# Altium integrated library Microchip Microcontroller 8-Bit PIC17.IntLib: 400 symbols (part 17 of 18)
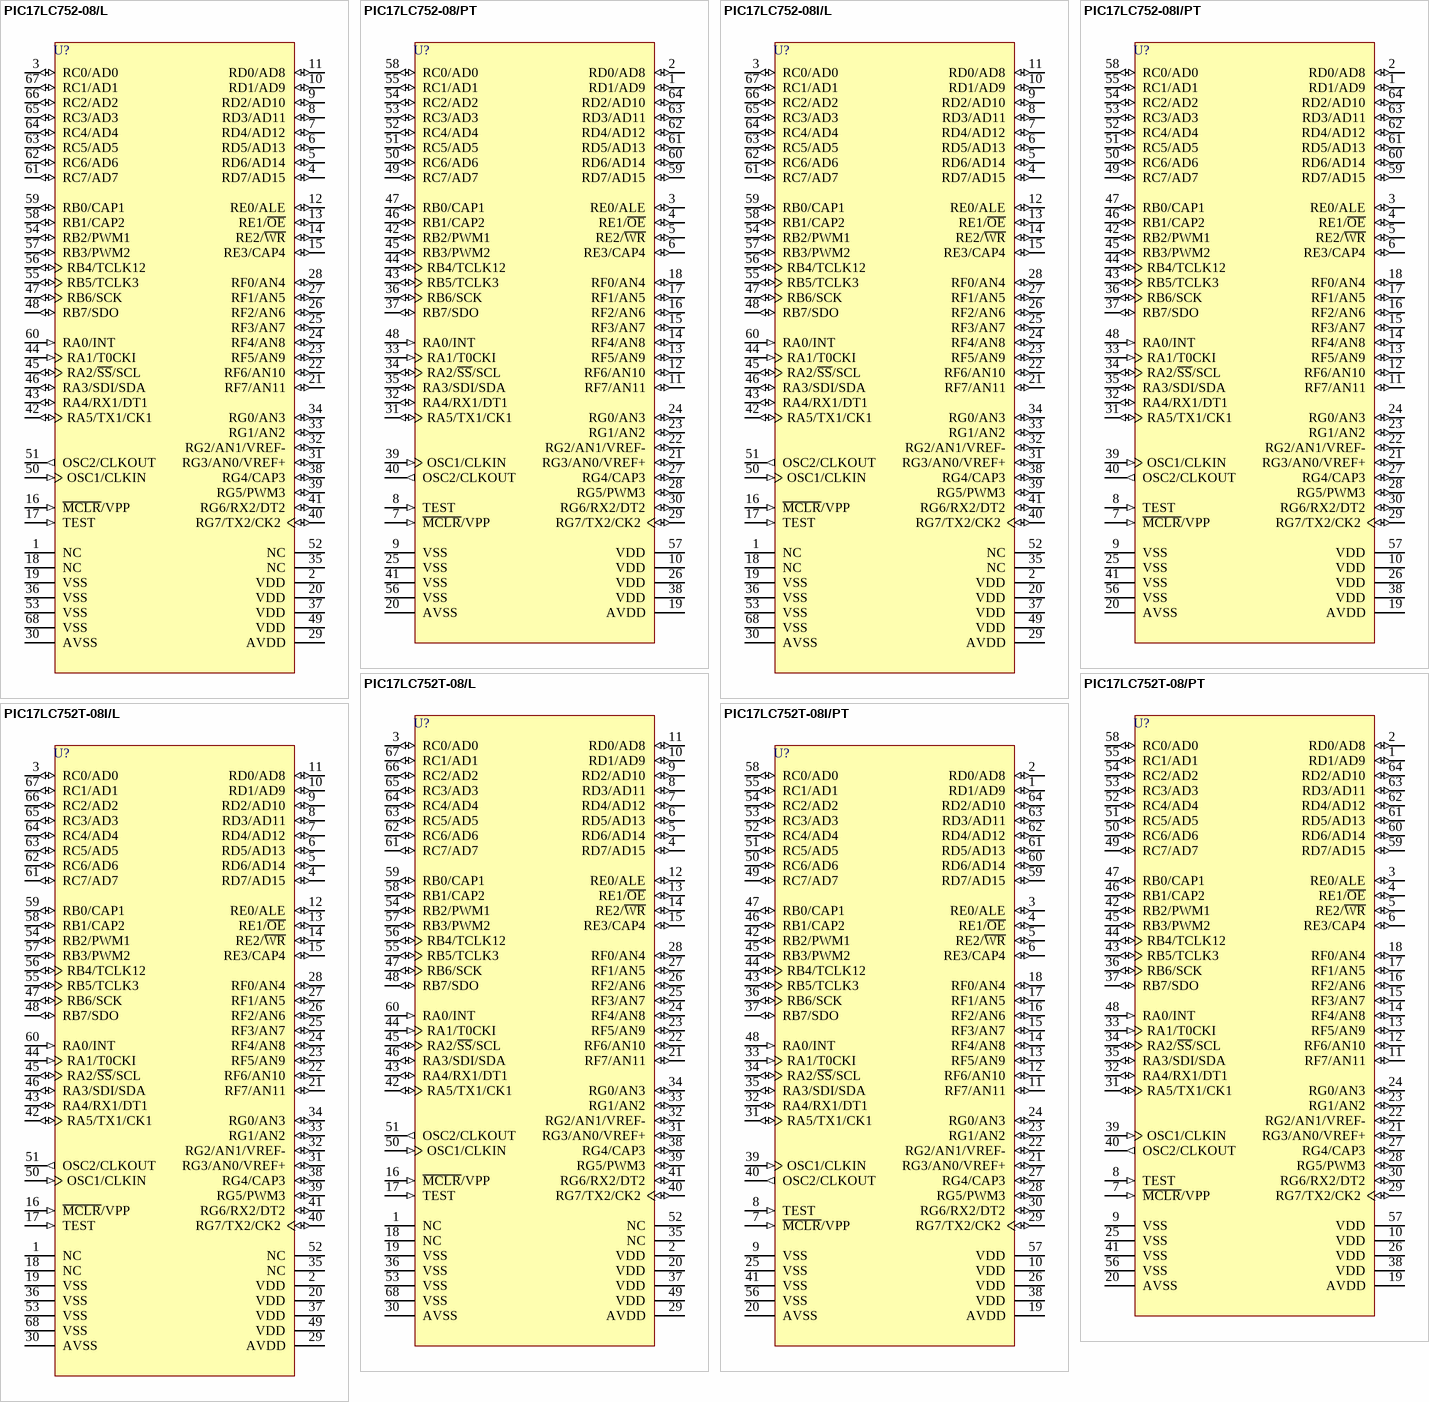
[diagram p57: symbols PIC17LC752-08/L to PIC17LC752T-08I/PT]

## PIC17LC752T-08I/PT
designator U?
High-Performance 8-Bit CMOS EPROM Microcontroller with 10-Bit A/D, 8K (x16) EPROM, 8 MHz, 64-Pin TQFP, Extended VDD Range, Industrial Temperature, Tape and Reel; Note: Not recommended for new designs. Consider PIC18F6520 instead.; Note: Pins RA2 and RA3 can sink up to 60 mA.; Published: 11-Oct-2004; LatestRevisionDate: 13-Apr-2006; LatestRevisionNote: IPC-7351 Footprint Added.; DatasheetVersion: DS30289B_2000; PackageVersion: 2003; PackageReference: TQFP-64; Publisher: Altium Limited; PackageDescription: 64-Pin Thin Plastic Quad Flat Pack 0.5 mm Pitch, 1.0/0.1 mm Lead Form; Code_JEDEC: MS-026; ComponentLink1Description: Manufacturer Link; ComponentLink1URL: http://www.microchip.com; ComponentLink2Description: Datasheet; ComponentLink2URL: http://ww1.microchip.com/downloads/en/DeviceDoc/30289b.pdf; ComponentLink3Description: Packaging Specification; ComponentLink3URL: http://ww1.microchip.com/downloads/en/PackagingSpec/00049AD.pdf
footprint TQFP-64_N (Thin QFP, 64-Leads, Body 10x10mm, Pitch 0.5mm, IPC Medium Density)
footprint TQFP-64_L (Thin QFP, 64-Leads, Body 10x10mm, Pitch 0.5mm, IPC High Density)
footprint TQFP-64_M (Thin QFP, 64-Leads, Body 10x10mm, Pitch 0.5mm, IPC Low Density)
3D model PIC17LC752-TQFP-64 (64-Pin Thin Plastic Quad Flat Pack 0.5 mm Pitch, 1.0/0.1 mm Lead Form)
pins: 1 RD1/AD9 (io), 2 RD0/AD8 (io), 3 RE0/ALE (io), 4 RE1/~{OE} (io), 5 RE2/~{WR} (io), 6 RE3/CAP4 (io), 7 ~{MCLR}/VPP (in), 8 TEST (in), 9 VSS (power), 10 VDD (power), 11 RF7/AN11 (io), 12 RF6/AN10 (io), 13 RF5/AN9 (io), 14 RF4/AN8 (io), 15 RF3/AN7 (io), 16 RF2/AN6 (io), 17 RF1/AN5 (io), 18 RF0/AN4 (io), 19 AVDD (power), 20 AVSS (power), 21 RG3/AN0/VREF+ (io), 22 RG2/AN1/VREF- (io), 23 RG1/AN2 (io), 24 RG0/AN3 (io), 25 VSS (power), 26 VDD (power), 27 RG4/CAP3 (io), 28 RG5/PWM3 (io), 29 RG7/TX2/CK2 (io), 30 RG6/RX2/DT2 (io), 31 RA5/TX1/CK1 (io), 32 RA4/RX1/DT1 (io), 33 RA1/T0CKI (in), 34 RA2/~{SS}/SCL (io), 35 RA3/SDI/SDA (io), 36 RB6/SCK (io), 37 RB7/SDO (io), 38 VDD (power), 39 OSC1/CLKIN (in), 40 OSC2/CLKOUT (out), 41 VSS (power), 42 RB2/PWM1 (io), 43 RB5/TCLK3 (io), 44 RB4/TCLK12 (io), 45 RB3/PWM2 (io), 46 RB1/CAP2 (io), 47 RB0/CAP1 (io), 48 RA0/INT (in), 49 RC7/AD7 (io), 50 RC6/AD6 (io), 51 RC5/AD5 (io), 52 RC4/AD4 (io), 53 RC3/AD3 (io), 54 RC2/AD2 (io), 55 RC1/AD1 (io), 56 VSS (power), 57 VDD (power), 58 RC0/AD0 (io), 59 RD7/AD15 (io), 60 RD6/AD14 (io), 61 RD5/AD13 (io), 62 RD4/AD12 (io), 63 RD3/AD11 (io), 64 RD2/AD10 (io)

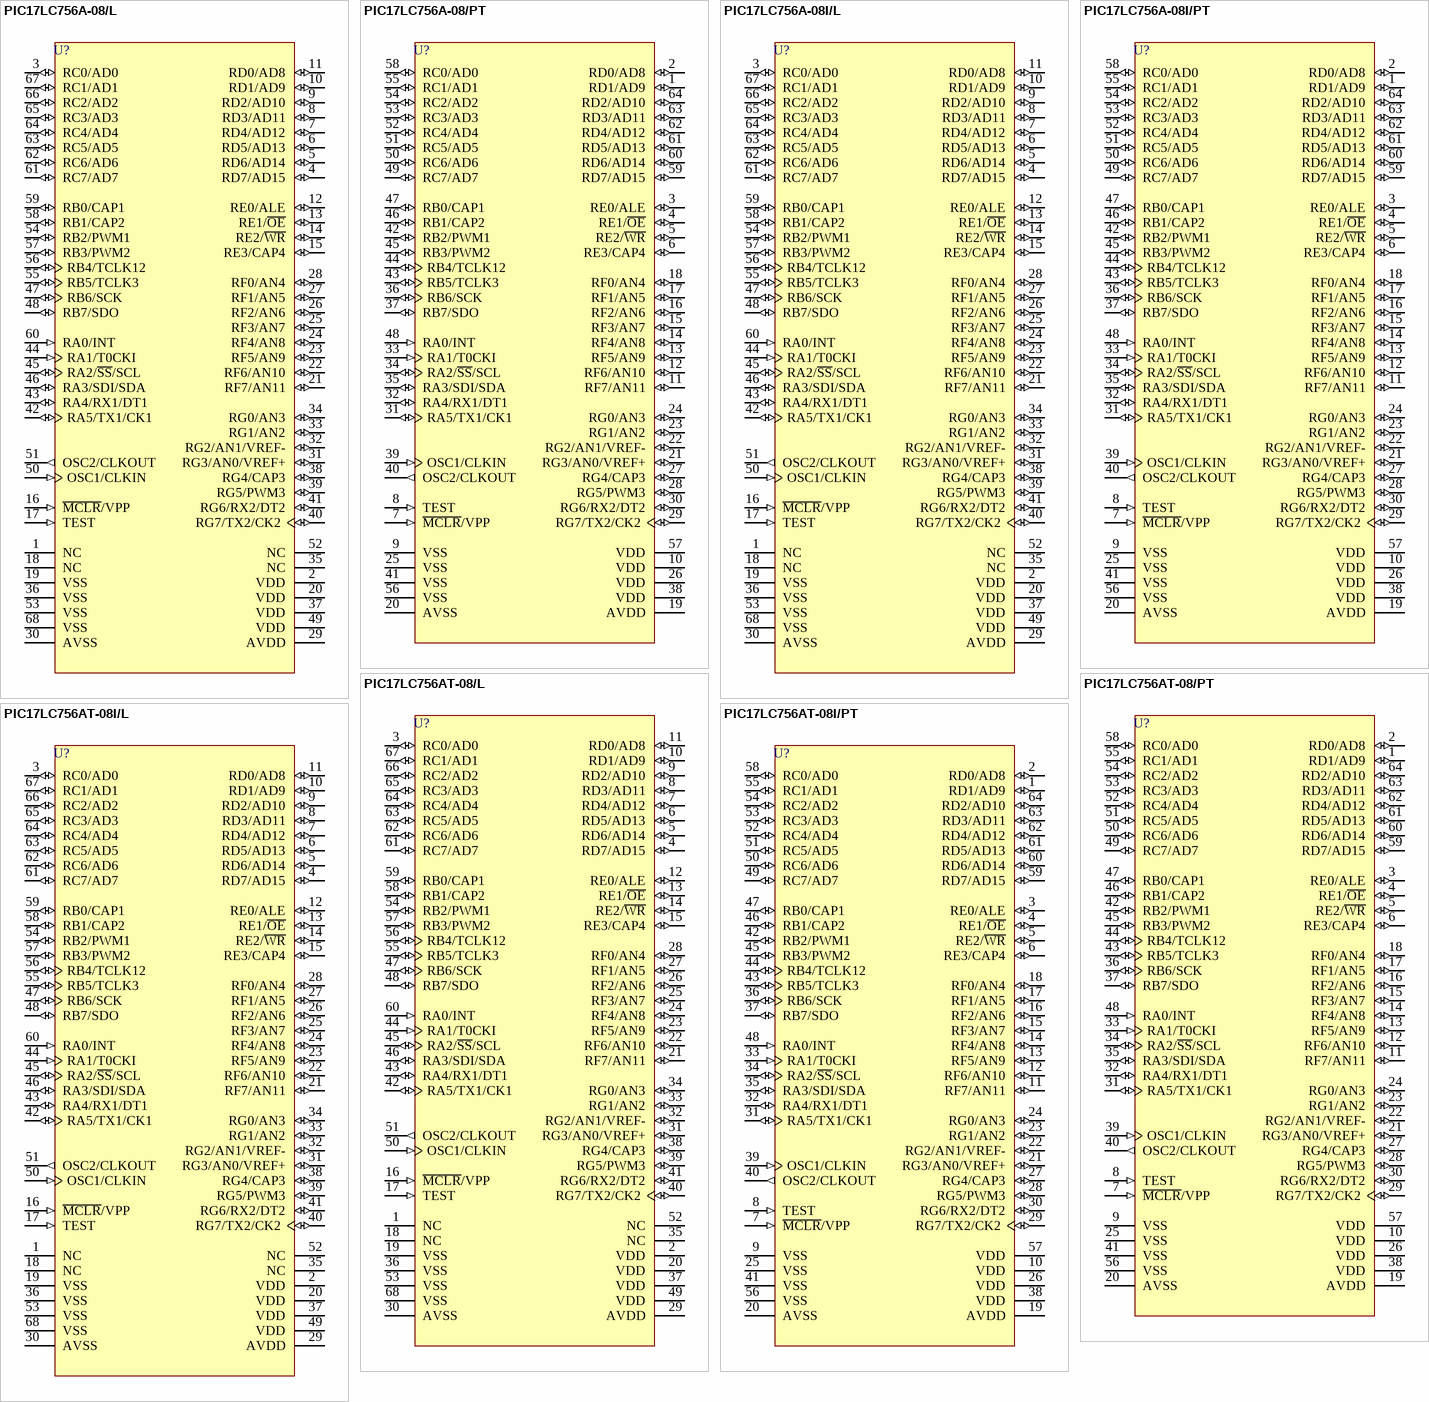
[diagram p38: symbols PIC17LC756A-08/L to PIC17LC756AT-08I/PT]

## PIC17LC756A-08/L
designator U?
High-Performance 8-Bit CMOS EPROM Microcontroller with 10-Bit A/D, 16K (x16) EPROM, 8 MHz, 68-Pin PLCC, Extended VDD Range, Commercial Temperature; Note: Not recommended for new designs. Consider PIC18F6520 instead.; Note: Pins RA2 and RA3 can sink up to 60 mA.; Published: 11-Oct-2004; LatestRevisionDate: 13-Apr-2006; LatestRevisionNote: IPC-7351 Footprint Added.; DatasheetVersion: DS30289B_2000; PackageVersion: 2003; PackageReference: PLCC-68; Publisher: Altium Limited; PackageDescription: 68-Pin Leaded Chip Carrier 1.27 mm Pitch; Code_JEDEC: MO-047; Code_IPC: PLCC-68; ComponentLink1Description: Manufacturer Link; ComponentLink1URL: http://www.microchip.com; ComponentLink2Description: Datasheet; ComponentLink2URL: http://ww1.microchip.com/downloads/en/DeviceDoc/30289b.pdf; ComponentLink3Description: Packaging Specification; ComponentLink3URL: http://ww1.microchip.com/downloads/en/PackagingSpec/00049AD.pdf
footprint PLCC-68_N (Leaded Chip Carrier, 68-Leads, Body 24x24mm, Pitch 1.27mm, IPC Medium Density)
footprint PLCC-68_L (Leaded Chip Carrier, 68-Leads, Body 24x24mm, Pitch 1.27mm, IPC High Density)
footprint PLCC-68_M (Leaded Chip Carrier, 68-Leads, Body 24x24mm, Pitch 1.27mm, IPC Low Density)
3D model PIC17LC756A-PLCC-68 (68-Pin Leaded Chip Carrier 1.27 mm Pitch)
pins: 1 NC, 2 VDD (power), 3 RC0/AD0 (io), 4 RD7/AD15 (io), 5 RD6/AD14 (io), 6 RD5/AD13 (io), 7 RD4/AD12 (io), 8 RD3/AD11 (io), 9 RD2/AD10 (io), 10 RD1/AD9 (io), 11 RD0/AD8 (io), 12 RE0/ALE (io), 13 RE1/~{OE} (io), 14 RE2/~{WR} (io), 15 RE3/CAP4 (io), 16 ~{MCLR}/VPP (in), 17 TEST (in), 18 NC, 19 VSS (power), 20 VDD (power), 21 RF7/AN11 (io), 22 RF6/AN10 (io), 23 RF5/AN9 (io), 24 RF4/AN8 (io), 25 RF3/AN7 (io), 26 RF2/AN6 (io), 27 RF1/AN5 (io), 28 RF0/AN4 (io), 29 AVDD (power), 30 AVSS (power), 31 RG3/AN0/VREF+ (io), 32 RG2/AN1/VREF- (io), 33 RG1/AN2 (io), 34 RG0/AN3 (io), 35 NC, 36 VSS (power), 37 VDD (power), 38 RG4/CAP3 (io), 39 RG5/PWM3 (io), 40 RG7/TX2/CK2 (io), 41 RG6/RX2/DT2 (io), 42 RA5/TX1/CK1 (io), 43 RA4/RX1/DT1 (io), 44 RA1/T0CKI (in), 45 RA2/~{SS}/SCL (io), 46 RA3/SDI/SDA (io), 47 RB6/SCK (io), 48 RB7/SDO (io), 49 VDD (power), 50 OSC1/CLKIN (in), 51 OSC2/CLKOUT (out), 52 NC, 53 VSS (power), 54 RB2/PWM1 (io), 55 RB5/TCLK3 (io), 56 RB4/TCLK12 (io), 57 RB3/PWM2 (io), 58 RB1/CAP2 (io), 59 RB0/CAP1 (io), 60 RA0/INT (in), 61 RC7/AD7 (io), 62 RC6/AD6 (io), 63 RC5/AD5 (io), 64 RC4/AD4 (io), 65 RC3/AD3 (io), 66 RC2/AD2 (io), 67 RC1/AD1 (io), 68 VSS (power)

## PIC17LC756A-08/PT
designator U?
High-Performance 8-Bit CMOS EPROM Microcontroller with 10-Bit A/D, 16K (x16) EPROM, 8 MHz, 64-Pin TQFP, Extended VDD Range, Commercial Temperature; Note: Not recommended for new designs. Consider PIC18F6520 instead.; Note: Pins RA2 and RA3 can sink up to 60 mA.; Published: 11-Oct-2004; LatestRevisionDate: 13-Apr-2006; LatestRevisionNote: IPC-7351 Footprint Added.; DatasheetVersion: DS30289B_2000; PackageVersion: 2003; PackageReference: TQFP-64; Publisher: Altium Limited; PackageDescription: 64-Pin Thin Plastic Quad Flat Pack 0.5 mm Pitch, 1.0/0.1 mm Lead Form; Code_JEDEC: MS-026; ComponentLink1Description: Manufacturer Link; ComponentLink1URL: http://www.microchip.com; ComponentLink2Description: Datasheet; ComponentLink2URL: http://ww1.microchip.com/downloads/en/DeviceDoc/30289b.pdf; ComponentLink3Description: Packaging Specification; ComponentLink3URL: http://ww1.microchip.com/downloads/en/PackagingSpec/00049AD.pdf
footprint TQFP-64_N (Thin QFP, 64-Leads, Body 10x10mm, Pitch 0.5mm, IPC Medium Density)
footprint TQFP-64_L (Thin QFP, 64-Leads, Body 10x10mm, Pitch 0.5mm, IPC High Density)
footprint TQFP-64_M (Thin QFP, 64-Leads, Body 10x10mm, Pitch 0.5mm, IPC Low Density)
3D model PIC17LC756A-TQFP-64 (64-Pin Thin Plastic Quad Flat Pack 0.5 mm Pitch, 1.0/0.1 mm Lead Form)
pins: 1 RD1/AD9 (io), 2 RD0/AD8 (io), 3 RE0/ALE (io), 4 RE1/~{OE} (io), 5 RE2/~{WR} (io), 6 RE3/CAP4 (io), 7 ~{MCLR}/VPP (in), 8 TEST (in), 9 VSS (power), 10 VDD (power), 11 RF7/AN11 (io), 12 RF6/AN10 (io), 13 RF5/AN9 (io), 14 RF4/AN8 (io), 15 RF3/AN7 (io), 16 RF2/AN6 (io), 17 RF1/AN5 (io), 18 RF0/AN4 (io), 19 AVDD (power), 20 AVSS (power), 21 RG3/AN0/VREF+ (io), 22 RG2/AN1/VREF- (io), 23 RG1/AN2 (io), 24 RG0/AN3 (io), 25 VSS (power), 26 VDD (power), 27 RG4/CAP3 (io), 28 RG5/PWM3 (io), 29 RG7/TX2/CK2 (io), 30 RG6/RX2/DT2 (io), 31 RA5/TX1/CK1 (io), 32 RA4/RX1/DT1 (io), 33 RA1/T0CKI (in), 34 RA2/~{SS}/SCL (io), 35 RA3/SDI/SDA (io), 36 RB6/SCK (io), 37 RB7/SDO (io), 38 VDD (power), 39 OSC1/CLKIN (in), 40 OSC2/CLKOUT (out), 41 VSS (power), 42 RB2/PWM1 (io), 43 RB5/TCLK3 (io), 44 RB4/TCLK12 (io), 45 RB3/PWM2 (io), 46 RB1/CAP2 (io), 47 RB0/CAP1 (io), 48 RA0/INT (in), 49 RC7/AD7 (io), 50 RC6/AD6 (io), 51 RC5/AD5 (io), 52 RC4/AD4 (io), 53 RC3/AD3 (io), 54 RC2/AD2 (io), 55 RC1/AD1 (io), 56 VSS (power), 57 VDD (power), 58 RC0/AD0 (io), 59 RD7/AD15 (io), 60 RD6/AD14 (io), 61 RD5/AD13 (io), 62 RD4/AD12 (io), 63 RD3/AD11 (io), 64 RD2/AD10 (io)

## PIC17LC756A-08I/L
designator U?
High-Performance 8-Bit CMOS EPROM Microcontroller with 10-Bit A/D, 16K (x16) EPROM, 8 MHz, 68-Pin PLCC, Extended VDD Range, Industrial Temperature; Note: Not recommended for new designs. Consider PIC18F6520 instead.; Note: Pins RA2 and RA3 can sink up to 60 mA.; Published: 11-Oct-2004; LatestRevisionDate: 13-Apr-2006; LatestRevisionNote: IPC-7351 Footprint Added.; DatasheetVersion: DS30289B_2000; PackageVersion: 2003; PackageReference: PLCC-68; Publisher: Altium Limited; PackageDescription: 68-Pin Leaded Chip Carrier 1.27 mm Pitch; Code_JEDEC: MO-047; Code_IPC: PLCC-68; ComponentLink1Description: Manufacturer Link; ComponentLink1URL: http://www.microchip.com; ComponentLink2Description: Datasheet; ComponentLink2URL: http://ww1.microchip.com/downloads/en/DeviceDoc/30289b.pdf; ComponentLink3Description: Packaging Specification; ComponentLink3URL: http://ww1.microchip.com/downloads/en/PackagingSpec/00049AD.pdf
footprint PLCC-68_N (Leaded Chip Carrier, 68-Leads, Body 24x24mm, Pitch 1.27mm, IPC Medium Density)
footprint PLCC-68_L (Leaded Chip Carrier, 68-Leads, Body 24x24mm, Pitch 1.27mm, IPC High Density)
footprint PLCC-68_M (Leaded Chip Carrier, 68-Leads, Body 24x24mm, Pitch 1.27mm, IPC Low Density)
3D model PIC17LC756A-PLCC-68 (68-Pin Leaded Chip Carrier 1.27 mm Pitch)
pins: 1 NC, 2 VDD (power), 3 RC0/AD0 (io), 4 RD7/AD15 (io), 5 RD6/AD14 (io), 6 RD5/AD13 (io), 7 RD4/AD12 (io), 8 RD3/AD11 (io), 9 RD2/AD10 (io), 10 RD1/AD9 (io), 11 RD0/AD8 (io), 12 RE0/ALE (io), 13 RE1/~{OE} (io), 14 RE2/~{WR} (io), 15 RE3/CAP4 (io), 16 ~{MCLR}/VPP (in), 17 TEST (in), 18 NC, 19 VSS (power), 20 VDD (power), 21 RF7/AN11 (io), 22 RF6/AN10 (io), 23 RF5/AN9 (io), 24 RF4/AN8 (io), 25 RF3/AN7 (io), 26 RF2/AN6 (io), 27 RF1/AN5 (io), 28 RF0/AN4 (io), 29 AVDD (power), 30 AVSS (power), 31 RG3/AN0/VREF+ (io), 32 RG2/AN1/VREF- (io), 33 RG1/AN2 (io), 34 RG0/AN3 (io), 35 NC, 36 VSS (power), 37 VDD (power), 38 RG4/CAP3 (io), 39 RG5/PWM3 (io), 40 RG7/TX2/CK2 (io), 41 RG6/RX2/DT2 (io), 42 RA5/TX1/CK1 (io), 43 RA4/RX1/DT1 (io), 44 RA1/T0CKI (in), 45 RA2/~{SS}/SCL (io), 46 RA3/SDI/SDA (io), 47 RB6/SCK (io), 48 RB7/SDO (io), 49 VDD (power), 50 OSC1/CLKIN (in), 51 OSC2/CLKOUT (out), 52 NC, 53 VSS (power), 54 RB2/PWM1 (io), 55 RB5/TCLK3 (io), 56 RB4/TCLK12 (io), 57 RB3/PWM2 (io), 58 RB1/CAP2 (io), 59 RB0/CAP1 (io), 60 RA0/INT (in), 61 RC7/AD7 (io), 62 RC6/AD6 (io), 63 RC5/AD5 (io), 64 RC4/AD4 (io), 65 RC3/AD3 (io), 66 RC2/AD2 (io), 67 RC1/AD1 (io), 68 VSS (power)

## PIC17LC756A-08I/PT
designator U?
High-Performance 8-Bit CMOS EPROM Microcontroller with 10-Bit A/D, 16K (x16) EPROM, 8 MHz, 64-Pin TQFP, Extended VDD Range, Industrial Temperature; Note: Not recommended for new designs. Consider PIC18F6520 instead.; Note: Pins RA2 and RA3 can sink up to 60 mA.; Published: 11-Oct-2004; LatestRevisionDate: 13-Apr-2006; LatestRevisionNote: IPC-7351 Footprint Added.; DatasheetVersion: DS30289B_2000; PackageVersion: 2003; PackageReference: TQFP-64; Publisher: Altium Limited; PackageDescription: 64-Pin Thin Plastic Quad Flat Pack 0.5 mm Pitch, 1.0/0.1 mm Lead Form; Code_JEDEC: MS-026; ComponentLink1Description: Manufacturer Link; ComponentLink1URL: http://www.microchip.com; ComponentLink2Description: Datasheet; ComponentLink2URL: http://ww1.microchip.com/downloads/en/DeviceDoc/30289b.pdf; ComponentLink3Description: Packaging Specification; ComponentLink3URL: http://ww1.microchip.com/downloads/en/PackagingSpec/00049AD.pdf
footprint TQFP-64_N (Thin QFP, 64-Leads, Body 10x10mm, Pitch 0.5mm, IPC Medium Density)
footprint TQFP-64_L (Thin QFP, 64-Leads, Body 10x10mm, Pitch 0.5mm, IPC High Density)
footprint TQFP-64_M (Thin QFP, 64-Leads, Body 10x10mm, Pitch 0.5mm, IPC Low Density)
3D model PIC17LC756A-TQFP-64 (64-Pin Thin Plastic Quad Flat Pack 0.5 mm Pitch, 1.0/0.1 mm Lead Form)
pins: 1 RD1/AD9 (io), 2 RD0/AD8 (io), 3 RE0/ALE (io), 4 RE1/~{OE} (io), 5 RE2/~{WR} (io), 6 RE3/CAP4 (io), 7 ~{MCLR}/VPP (in), 8 TEST (in), 9 VSS (power), 10 VDD (power), 11 RF7/AN11 (io), 12 RF6/AN10 (io), 13 RF5/AN9 (io), 14 RF4/AN8 (io), 15 RF3/AN7 (io), 16 RF2/AN6 (io), 17 RF1/AN5 (io), 18 RF0/AN4 (io), 19 AVDD (power), 20 AVSS (power), 21 RG3/AN0/VREF+ (io), 22 RG2/AN1/VREF- (io), 23 RG1/AN2 (io), 24 RG0/AN3 (io), 25 VSS (power), 26 VDD (power), 27 RG4/CAP3 (io), 28 RG5/PWM3 (io), 29 RG7/TX2/CK2 (io), 30 RG6/RX2/DT2 (io), 31 RA5/TX1/CK1 (io), 32 RA4/RX1/DT1 (io), 33 RA1/T0CKI (in), 34 RA2/~{SS}/SCL (io), 35 RA3/SDI/SDA (io), 36 RB6/SCK (io), 37 RB7/SDO (io), 38 VDD (power), 39 OSC1/CLKIN (in), 40 OSC2/CLKOUT (out), 41 VSS (power), 42 RB2/PWM1 (io), 43 RB5/TCLK3 (io), 44 RB4/TCLK12 (io), 45 RB3/PWM2 (io), 46 RB1/CAP2 (io), 47 RB0/CAP1 (io), 48 RA0/INT (in), 49 RC7/AD7 (io), 50 RC6/AD6 (io), 51 RC5/AD5 (io), 52 RC4/AD4 (io), 53 RC3/AD3 (io), 54 RC2/AD2 (io), 55 RC1/AD1 (io), 56 VSS (power), 57 VDD (power), 58 RC0/AD0 (io), 59 RD7/AD15 (io), 60 RD6/AD14 (io), 61 RD5/AD13 (io), 62 RD4/AD12 (io), 63 RD3/AD11 (io), 64 RD2/AD10 (io)

## PIC17LC756AT-08/L
designator U?
High-Performance 8-Bit CMOS EPROM Microcontroller with 10-Bit A/D, 16K (x16) EPROM, 8 MHz, 68-Pin PLCC, Extended VDD Range, Commercial Temperature, Tape and Reel; Note: Not recommended for new designs. Consider PIC18F6520 instead.; Note: Pins RA2 and RA3 can sink up to 60 mA.; Published: 11-Oct-2004; LatestRevisionDate: 13-Apr-2006; LatestRevisionNote: IPC-7351 Footprint Added.; DatasheetVersion: DS30289B_2000; PackageVersion: 2003; PackageReference: PLCC-68; Publisher: Altium Limited; PackageDescription: 68-Pin Leaded Chip Carrier 1.27 mm Pitch; Code_JEDEC: MO-047; Code_IPC: PLCC-68; ComponentLink1Description: Manufacturer Link; ComponentLink1URL: http://www.microchip.com; ComponentLink2Description: Datasheet; ComponentLink2URL: http://ww1.microchip.com/downloads/en/DeviceDoc/30289b.pdf; ComponentLink3Description: Packaging Specification; ComponentLink3URL: http://ww1.microchip.com/downloads/en/PackagingSpec/00049AD.pdf
footprint PLCC-68_N (Leaded Chip Carrier, 68-Leads, Body 24x24mm, Pitch 1.27mm, IPC Medium Density)
footprint PLCC-68_L (Leaded Chip Carrier, 68-Leads, Body 24x24mm, Pitch 1.27mm, IPC High Density)
footprint PLCC-68_M (Leaded Chip Carrier, 68-Leads, Body 24x24mm, Pitch 1.27mm, IPC Low Density)
3D model PIC17LC756A-PLCC-68 (68-Pin Leaded Chip Carrier 1.27 mm Pitch)
pins: 1 NC, 2 VDD (power), 3 RC0/AD0 (io), 4 RD7/AD15 (io), 5 RD6/AD14 (io), 6 RD5/AD13 (io), 7 RD4/AD12 (io), 8 RD3/AD11 (io), 9 RD2/AD10 (io), 10 RD1/AD9 (io), 11 RD0/AD8 (io), 12 RE0/ALE (io), 13 RE1/~{OE} (io), 14 RE2/~{WR} (io), 15 RE3/CAP4 (io), 16 ~{MCLR}/VPP (in), 17 TEST (in), 18 NC, 19 VSS (power), 20 VDD (power), 21 RF7/AN11 (io), 22 RF6/AN10 (io), 23 RF5/AN9 (io), 24 RF4/AN8 (io), 25 RF3/AN7 (io), 26 RF2/AN6 (io), 27 RF1/AN5 (io), 28 RF0/AN4 (io), 29 AVDD (power), 30 AVSS (power), 31 RG3/AN0/VREF+ (io), 32 RG2/AN1/VREF- (io), 33 RG1/AN2 (io), 34 RG0/AN3 (io), 35 NC, 36 VSS (power), 37 VDD (power), 38 RG4/CAP3 (io), 39 RG5/PWM3 (io), 40 RG7/TX2/CK2 (io), 41 RG6/RX2/DT2 (io), 42 RA5/TX1/CK1 (io), 43 RA4/RX1/DT1 (io), 44 RA1/T0CKI (in), 45 RA2/~{SS}/SCL (io), 46 RA3/SDI/SDA (io), 47 RB6/SCK (io), 48 RB7/SDO (io), 49 VDD (power), 50 OSC1/CLKIN (in), 51 OSC2/CLKOUT (out), 52 NC, 53 VSS (power), 54 RB2/PWM1 (io), 55 RB5/TCLK3 (io), 56 RB4/TCLK12 (io), 57 RB3/PWM2 (io), 58 RB1/CAP2 (io), 59 RB0/CAP1 (io), 60 RA0/INT (in), 61 RC7/AD7 (io), 62 RC6/AD6 (io), 63 RC5/AD5 (io), 64 RC4/AD4 (io), 65 RC3/AD3 (io), 66 RC2/AD2 (io), 67 RC1/AD1 (io), 68 VSS (power)

## PIC17LC756AT-08/PT
designator U?
High-Performance 8-Bit CMOS EPROM Microcontroller with 10-Bit A/D, 16K (x16) EPROM, 8 MHz, 64-Pin TQFP, Extended VDD Range, Commercial Temperature, Tape and Reel; Note: Not recommended for new designs. Consider PIC18F6520 instead.; Note: Pins RA2 and RA3 can sink up to 60 mA.; Published: 11-Oct-2004; LatestRevisionDate: 13-Apr-2006; LatestRevisionNote: IPC-7351 Footprint Added.; DatasheetVersion: DS30289B_2000; PackageVersion: 2003; PackageReference: TQFP-64; Publisher: Altium Limited; PackageDescription: 64-Pin Thin Plastic Quad Flat Pack 0.5 mm Pitch, 1.0/0.1 mm Lead Form; Code_JEDEC: MS-026; ComponentLink1Description: Manufacturer Link; ComponentLink1URL: http://www.microchip.com; ComponentLink2Description: Datasheet; ComponentLink2URL: http://ww1.microchip.com/downloads/en/DeviceDoc/30289b.pdf; ComponentLink3Description: Packaging Specification; ComponentLink3URL: http://ww1.microchip.com/downloads/en/PackagingSpec/00049AD.pdf
footprint TQFP-64_N (Thin QFP, 64-Leads, Body 10x10mm, Pitch 0.5mm, IPC Medium Density)
footprint TQFP-64_L (Thin QFP, 64-Leads, Body 10x10mm, Pitch 0.5mm, IPC High Density)
footprint TQFP-64_M (Thin QFP, 64-Leads, Body 10x10mm, Pitch 0.5mm, IPC Low Density)
3D model PIC17LC756A-TQFP-64 (64-Pin Thin Plastic Quad Flat Pack 0.5 mm Pitch, 1.0/0.1 mm Lead Form)
pins: 1 RD1/AD9 (io), 2 RD0/AD8 (io), 3 RE0/ALE (io), 4 RE1/~{OE} (io), 5 RE2/~{WR} (io), 6 RE3/CAP4 (io), 7 ~{MCLR}/VPP (in), 8 TEST (in), 9 VSS (power), 10 VDD (power), 11 RF7/AN11 (io), 12 RF6/AN10 (io), 13 RF5/AN9 (io), 14 RF4/AN8 (io), 15 RF3/AN7 (io), 16 RF2/AN6 (io), 17 RF1/AN5 (io), 18 RF0/AN4 (io), 19 AVDD (power), 20 AVSS (power), 21 RG3/AN0/VREF+ (io), 22 RG2/AN1/VREF- (io), 23 RG1/AN2 (io), 24 RG0/AN3 (io), 25 VSS (power), 26 VDD (power), 27 RG4/CAP3 (io), 28 RG5/PWM3 (io), 29 RG7/TX2/CK2 (io), 30 RG6/RX2/DT2 (io), 31 RA5/TX1/CK1 (io), 32 RA4/RX1/DT1 (io), 33 RA1/T0CKI (in), 34 RA2/~{SS}/SCL (io), 35 RA3/SDI/SDA (io), 36 RB6/SCK (io), 37 RB7/SDO (io), 38 VDD (power), 39 OSC1/CLKIN (in), 40 OSC2/CLKOUT (out), 41 VSS (power), 42 RB2/PWM1 (io), 43 RB5/TCLK3 (io), 44 RB4/TCLK12 (io), 45 RB3/PWM2 (io), 46 RB1/CAP2 (io), 47 RB0/CAP1 (io), 48 RA0/INT (in), 49 RC7/AD7 (io), 50 RC6/AD6 (io), 51 RC5/AD5 (io), 52 RC4/AD4 (io), 53 RC3/AD3 (io), 54 RC2/AD2 (io), 55 RC1/AD1 (io), 56 VSS (power), 57 VDD (power), 58 RC0/AD0 (io), 59 RD7/AD15 (io), 60 RD6/AD14 (io), 61 RD5/AD13 (io), 62 RD4/AD12 (io), 63 RD3/AD11 (io), 64 RD2/AD10 (io)

## PIC17LC756AT-08I/L
designator U?
High-Performance 8-Bit CMOS EPROM Microcontroller with 10-Bit A/D, 16K (x16) EPROM, 8 MHz, 68-Pin PLCC, Extended VDD Range, Industrial Temperature, Tape and Reel; Note: Not recommended for new designs. Consider PIC18F6520 instead.; Note: Pins RA2 and RA3 can sink up to 60 mA.; Published: 11-Oct-2004; LatestRevisionDate: 13-Apr-2006; LatestRevisionNote: IPC-7351 Footprint Added.; DatasheetVersion: DS30289B_2000; PackageVersion: 2003; PackageReference: PLCC-68; Publisher: Altium Limited; PackageDescription: 68-Pin Leaded Chip Carrier 1.27 mm Pitch; Code_JEDEC: MO-047; Code_IPC: PLCC-68; ComponentLink1Description: Manufacturer Link; ComponentLink1URL: http://www.microchip.com; ComponentLink2Description: Datasheet; ComponentLink2URL: http://ww1.microchip.com/downloads/en/DeviceDoc/30289b.pdf; ComponentLink3Description: Packaging Specification; ComponentLink3URL: http://ww1.microchip.com/downloads/en/PackagingSpec/00049AD.pdf
footprint PLCC-68_N (Leaded Chip Carrier, 68-Leads, Body 24x24mm, Pitch 1.27mm, IPC Medium Density)
footprint PLCC-68_L (Leaded Chip Carrier, 68-Leads, Body 24x24mm, Pitch 1.27mm, IPC High Density)
footprint PLCC-68_M (Leaded Chip Carrier, 68-Leads, Body 24x24mm, Pitch 1.27mm, IPC Low Density)
3D model PIC17LC756A-PLCC-68 (68-Pin Leaded Chip Carrier 1.27 mm Pitch)
pins: 1 NC, 2 VDD (power), 3 RC0/AD0 (io), 4 RD7/AD15 (io), 5 RD6/AD14 (io), 6 RD5/AD13 (io), 7 RD4/AD12 (io), 8 RD3/AD11 (io), 9 RD2/AD10 (io), 10 RD1/AD9 (io), 11 RD0/AD8 (io), 12 RE0/ALE (io), 13 RE1/~{OE} (io), 14 RE2/~{WR} (io), 15 RE3/CAP4 (io), 16 ~{MCLR}/VPP (in), 17 TEST (in), 18 NC, 19 VSS (power), 20 VDD (power), 21 RF7/AN11 (io), 22 RF6/AN10 (io), 23 RF5/AN9 (io), 24 RF4/AN8 (io), 25 RF3/AN7 (io), 26 RF2/AN6 (io), 27 RF1/AN5 (io), 28 RF0/AN4 (io), 29 AVDD (power), 30 AVSS (power), 31 RG3/AN0/VREF+ (io), 32 RG2/AN1/VREF- (io), 33 RG1/AN2 (io), 34 RG0/AN3 (io), 35 NC, 36 VSS (power), 37 VDD (power), 38 RG4/CAP3 (io), 39 RG5/PWM3 (io), 40 RG7/TX2/CK2 (io), 41 RG6/RX2/DT2 (io), 42 RA5/TX1/CK1 (io), 43 RA4/RX1/DT1 (io), 44 RA1/T0CKI (in), 45 RA2/~{SS}/SCL (io), 46 RA3/SDI/SDA (io), 47 RB6/SCK (io), 48 RB7/SDO (io), 49 VDD (power), 50 OSC1/CLKIN (in), 51 OSC2/CLKOUT (out), 52 NC, 53 VSS (power), 54 RB2/PWM1 (io), 55 RB5/TCLK3 (io), 56 RB4/TCLK12 (io), 57 RB3/PWM2 (io), 58 RB1/CAP2 (io), 59 RB0/CAP1 (io), 60 RA0/INT (in), 61 RC7/AD7 (io), 62 RC6/AD6 (io), 63 RC5/AD5 (io), 64 RC4/AD4 (io), 65 RC3/AD3 (io), 66 RC2/AD2 (io), 67 RC1/AD1 (io), 68 VSS (power)

## PIC17LC756AT-08I/PT
designator U?
High-Performance 8-Bit CMOS EPROM Microcontroller with 10-Bit A/D, 16K (x16) EPROM, 8 MHz, 64-Pin TQFP, Extended VDD Range, Industrial Temperature, Tape and Reel; Note: Not recommended for new designs. Consider PIC18F6520 instead.; Note: Pins RA2 and RA3 can sink up to 60 mA.; Published: 11-Oct-2004; LatestRevisionDate: 13-Apr-2006; LatestRevisionNote: IPC-7351 Footprint Added.; DatasheetVersion: DS30289B_2000; PackageVersion: 2003; PackageReference: TQFP-64; Publisher: Altium Limited; PackageDescription: 64-Pin Thin Plastic Quad Flat Pack 0.5 mm Pitch, 1.0/0.1 mm Lead Form; Code_JEDEC: MS-026; ComponentLink1Description: Manufacturer Link; ComponentLink1URL: http://www.microchip.com; ComponentLink2Description: Datasheet; ComponentLink2URL: http://ww1.microchip.com/downloads/en/DeviceDoc/30289b.pdf; ComponentLink3Description: Packaging Specification; ComponentLink3URL: http://ww1.microchip.com/downloads/en/PackagingSpec/00049AD.pdf
footprint TQFP-64_N (Thin QFP, 64-Leads, Body 10x10mm, Pitch 0.5mm, IPC Medium Density)
footprint TQFP-64_L (Thin QFP, 64-Leads, Body 10x10mm, Pitch 0.5mm, IPC High Density)
footprint TQFP-64_M (Thin QFP, 64-Leads, Body 10x10mm, Pitch 0.5mm, IPC Low Density)
3D model PIC17LC756A-TQFP-64 (64-Pin Thin Plastic Quad Flat Pack 0.5 mm Pitch, 1.0/0.1 mm Lead Form)
pins: 1 RD1/AD9 (io), 2 RD0/AD8 (io), 3 RE0/ALE (io), 4 RE1/~{OE} (io), 5 RE2/~{WR} (io), 6 RE3/CAP4 (io), 7 ~{MCLR}/VPP (in), 8 TEST (in), 9 VSS (power), 10 VDD (power), 11 RF7/AN11 (io), 12 RF6/AN10 (io), 13 RF5/AN9 (io), 14 RF4/AN8 (io), 15 RF3/AN7 (io), 16 RF2/AN6 (io), 17 RF1/AN5 (io), 18 RF0/AN4 (io), 19 AVDD (power), 20 AVSS (power), 21 RG3/AN0/VREF+ (io), 22 RG2/AN1/VREF- (io), 23 RG1/AN2 (io), 24 RG0/AN3 (io), 25 VSS (power), 26 VDD (power), 27 RG4/CAP3 (io), 28 RG5/PWM3 (io), 29 RG7/TX2/CK2 (io), 30 RG6/RX2/DT2 (io), 31 RA5/TX1/CK1 (io), 32 RA4/RX1/DT1 (io), 33 RA1/T0CKI (in), 34 RA2/~{SS}/SCL (io), 35 RA3/SDI/SDA (io), 36 RB6/SCK (io), 37 RB7/SDO (io), 38 VDD (power), 39 OSC1/CLKIN (in), 40 OSC2/CLKOUT (out), 41 VSS (power), 42 RB2/PWM1 (io), 43 RB5/TCLK3 (io), 44 RB4/TCLK12 (io), 45 RB3/PWM2 (io), 46 RB1/CAP2 (io), 47 RB0/CAP1 (io), 48 RA0/INT (in), 49 RC7/AD7 (io), 50 RC6/AD6 (io), 51 RC5/AD5 (io), 52 RC4/AD4 (io), 53 RC3/AD3 (io), 54 RC2/AD2 (io), 55 RC1/AD1 (io), 56 VSS (power), 57 VDD (power), 58 RC0/AD0 (io), 59 RD7/AD15 (io), 60 RD6/AD14 (io), 61 RD5/AD13 (io), 62 RD4/AD12 (io), 63 RD3/AD11 (io), 64 RD2/AD10 (io)

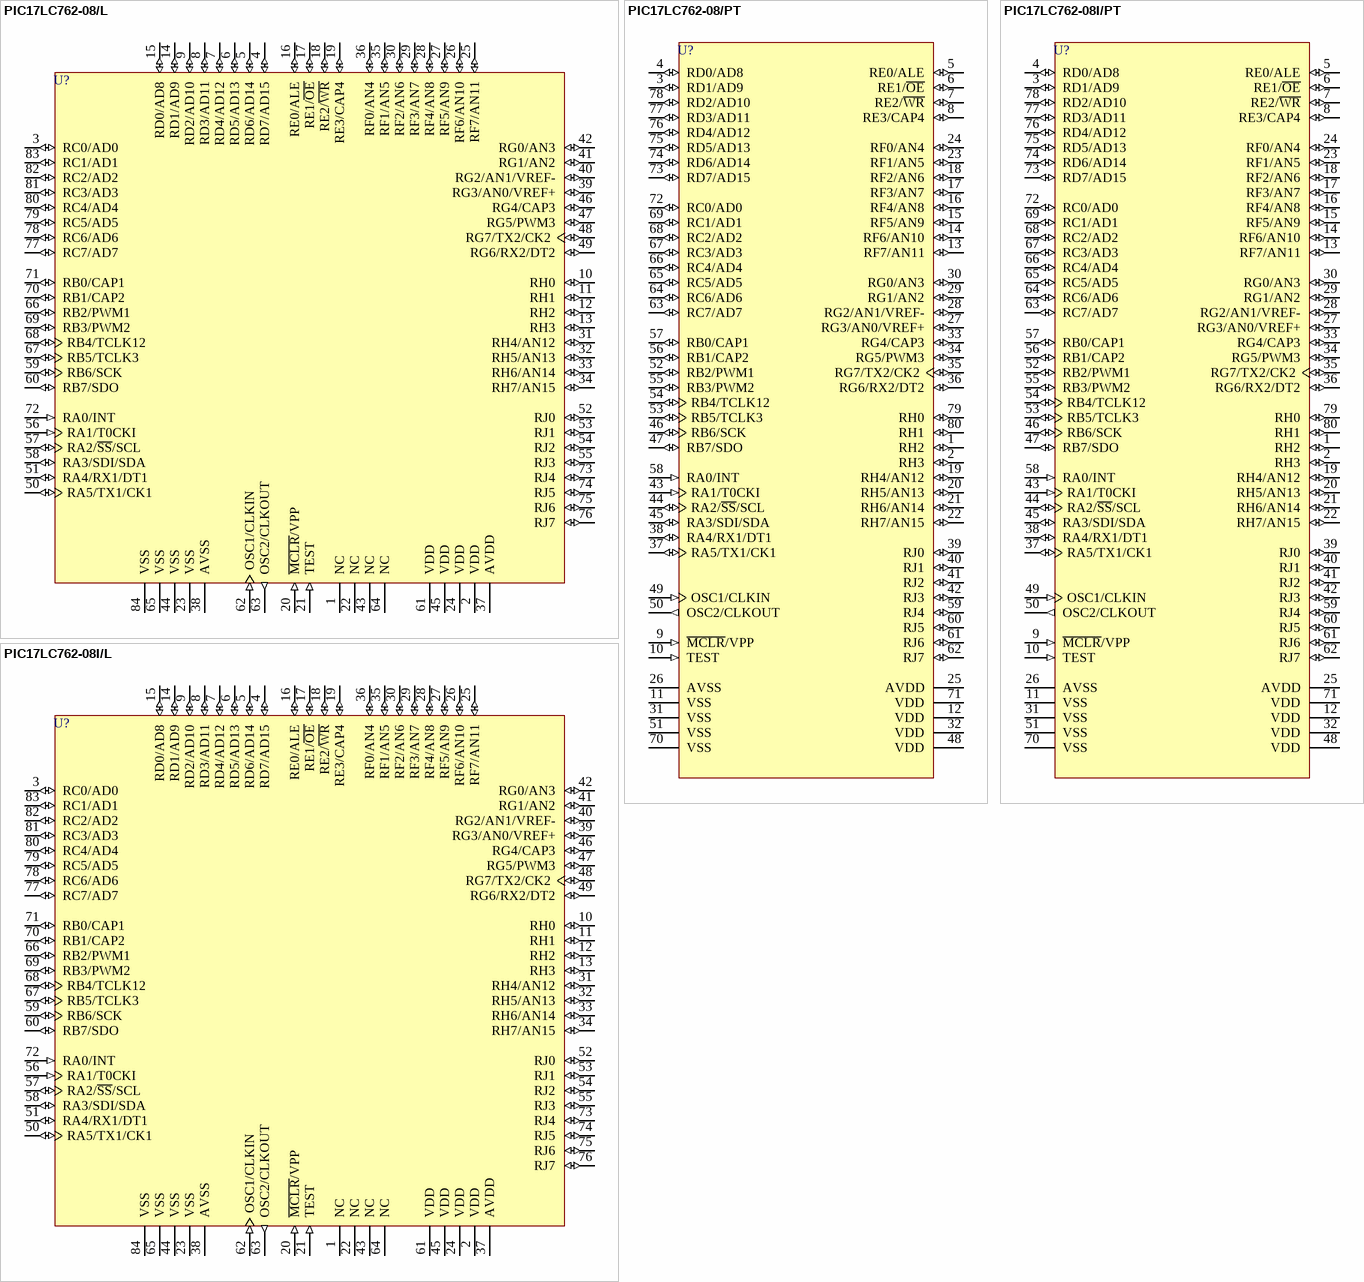
[diagram p39: symbols PIC17LC762-08/L to PIC17LC762-08I/PT]

## PIC17LC762-08/L
designator U?
High-Performance 8-Bit CMOS EPROM Microcontroller with 10-Bit A/D, 8K (x16) EPROM, 8 MHz, 84-Pin PLCC, Extended VDD Range, Commercial Temperature; Note: Not recommended for new designs. Consider PIC18F8520 instead.; Note: Pins RA2 and RA3 can sink up to 60 mA.; Published: 11-Oct-2004; LatestRevisionDate: 13-Apr-2006; LatestRevisionNote: IPC-7351 Footprint Added.; DatasheetVersion: DS30289B_2000; PackageVersion: 2003; PackageReference: PLCC-84; Publisher: Altium Limited; PackageDescription: 84-Pin Plastic Leaded Chip Carrier 1.27 mm Pitch; Code_JEDEC: MO-047; Code_IPC: PLCC-84; ComponentLink1Description: Manufacturer Link; ComponentLink1URL: http://www.microchip.com; ComponentLink2Description: Datasheet; ComponentLink2URL: http://ww1.microchip.com/downloads/en/DeviceDoc/30289b.pdf; ComponentLink3Description: Packaging Specification; ComponentLink3URL: http://ww1.microchip.com/downloads/en/PackagingSpec/00049AD.pdf
footprint PLCC-84_N (Leaded Chip Carrier, 84-Leads, Body 29.3x29.3mm, Pitch 1.27mm, IPC Medium Density)
footprint PLCC-84_L (Leaded Chip Carrier, 84-Leads, Body 29.3x29.3mm, Pitch 1.27mm, IPC High Density)
footprint PLCC-84_M (Leaded Chip Carrier, 84-Leads, Body 29.3x29.3mm, Pitch 1.27mm, IPC Low Density)
3D model PIC17LC762-PLCC-84 (84-Pin Plastic Leaded Chip Carrier 1.27 mm Pitch)
pins: 1 NC, 2 VDD (power), 3 RC0/AD0 (io), 4 RD7/AD15 (io), 5 RD6/AD14 (io), 6 RD5/AD13 (io), 7 RD4/AD12 (io), 8 RD3/AD11 (io), 9 RD2/AD10 (io), 10 RH0 (io), 11 RH1 (io), 12 RH2 (io), 13 RH3 (io), 14 RD1/AD9 (io), 15 RD0/AD8 (io), 16 RE0/ALE (io), 17 RE1/~{OE} (io), 18 RE2/~{WR} (io), 19 RE3/CAP4 (io), 20 ~{MCLR}/VPP (in), 21 TEST (in), 22 NC, 23 VSS (power), 24 VDD (power), 25 RF7/AN11 (io), 26 RF6/AN10 (io), 27 RF5/AN9 (io), 28 RF4/AN8 (io), 29 RF3/AN7 (io), 30 RF2/AN6 (io), 31 RH4/AN12 (io), 32 RH5/AN13 (io), 33 RH6/AN14 (io), 34 RH7/AN15 (io), 35 RF1/AN5 (io), 36 RF0/AN4 (io), 37 AVDD (power), 38 AVSS (power), 39 RG3/AN0/VREF+ (io), 40 RG2/AN1/VREF- (io), 41 RG1/AN2 (io), 42 RG0/AN3 (io), 43 NC, 44 VSS (power), 45 VDD (power), 46 RG4/CAP3 (io), 47 RG5/PWM3 (io), 48 RG7/TX2/CK2 (io), 49 RG6/RX2/DT2 (io), 50 RA5/TX1/CK1 (io), 51 RA4/RX1/DT1 (io), 52 RJ0 (io), 53 RJ1 (io), 54 RJ2 (io), 55 RJ3 (io), 56 RA1/T0CKI (in), 57 RA2/~{SS}/SCL (io), 58 RA3/SDI/SDA (io), 59 RB6/SCK (io), 60 RB7/SDO (io), 61 VDD (power), 62 OSC1/CLKIN (in), 63 OSC2/CLKOUT (out), 64 NC, 65 VSS (power), 66 RB2/PWM1 (io), 67 RB5/TCLK3 (io), 68 RB4/TCLK12 (io), 69 RB3/PWM2 (io), 70 RB1/CAP2 (io), 71 RB0/CAP1 (io), 72 RA0/INT (in), 73 RJ4 (io), 74 RJ5 (io), 75 RJ6 (io), 76 RJ7 (io), 77 RC7/AD7 (io), 78 RC6/AD6 (io), 79 RC5/AD5 (io), 80 RC4/AD4 (io), 81 RC3/AD3 (io), 82 RC2/AD2 (io), 83 RC1/AD1 (io), 84 VSS (power)

## PIC17LC762-08/PT
designator U?
High-Performance 8-Bit CMOS EPROM Microcontroller with 10-Bit A/D, 8K (x16) EPROM, 8 MHz, 80-Pin TQFP, Extended VDD Range, Commercial Temperature; Note: Not recommended for new designs. Consider PIC18F8520 instead.; Note: Pins RA2 and RA3 can sink up to 60 mA.; Published: 11-Oct-2004; LatestRevisionDate: 13-Apr-2006; LatestRevisionNote: IPC-7351 Footprint Added.; DatasheetVersion: DS30289B_2000; PackageVersion: 2003; PackageReference: TQFP-80; Publisher: Altium Limited; PackageDescription: 80-Pin Thin Plastic Quad Flat Pack 0.5 mm Pitch, 1.0/0.1 mm Lead Form; Code_JEDEC: MS-026; ComponentLink1Description: Manufacturer Link; ComponentLink1URL: http://www.microchip.com; ComponentLink2Description: Datasheet; ComponentLink2URL: http://ww1.microchip.com/downloads/en/DeviceDoc/30289b.pdf; ComponentLink3Description: Packaging Specification; ComponentLink3URL: http://ww1.microchip.com/downloads/en/PackagingSpec/00049AD.pdf
footprint TQFP-80_N (Thin QFP, 80-Leads, Body 12x12mm, Pitch 0.5mm, IPC Medium Density)
footprint TQFP-80_L (Thin QFP, 80-Leads, Body 12x12mm, Pitch 0.5mm, IPC High Density)
footprint TQFP-80_M (Thin QFP, 80-Leads, Body 12x12mm, Pitch 0.5mm, IPC Low Density)
3D model PIC17LC762-TQFP-80 (80-Pin Thin Plastic Quad Flat Pack 0.5 mm Pitch, 1.0/0.1 mm Lead Form)
pins: 1 RH2 (io), 2 RH3 (io), 3 RD1/AD9 (io), 4 RD0/AD8 (io), 5 RE0/ALE (io), 6 RE1/~{OE} (io), 7 RE2/~{WR} (io), 8 RE3/CAP4 (io), 9 ~{MCLR}/VPP (in), 10 TEST (in), 11 VSS (power), 12 VDD (power), 13 RF7/AN11 (io), 14 RF6/AN10 (io), 15 RF5/AN9 (io), 16 RF4/AN8 (io), 17 RF3/AN7 (io), 18 RF2/AN6 (io), 19 RH4/AN12 (io), 20 RH5/AN13 (io), 21 RH6/AN14 (io), 22 RH7/AN15 (io), 23 RF1/AN5 (io), 24 RF0/AN4 (io), 25 AVDD (power), 26 AVSS (power), 27 RG3/AN0/VREF+ (io), 28 RG2/AN1/VREF- (io), 29 RG1/AN2 (io), 30 RG0/AN3 (io), 31 VSS (power), 32 VDD (power), 33 RG4/CAP3 (io), 34 RG5/PWM3 (io), 35 RG7/TX2/CK2 (io), 36 RG6/RX2/DT2 (io), 37 RA5/TX1/CK1 (io), 38 RA4/RX1/DT1 (io), 39 RJ0 (io), 40 RJ1 (io), 41 RJ2 (io), 42 RJ3 (io), 43 RA1/T0CKI (in), 44 RA2/~{SS}/SCL (io), 45 RA3/SDI/SDA (io), 46 RB6/SCK (io), 47 RB7/SDO (io), 48 VDD (power), 49 OSC1/CLKIN (in), 50 OSC2/CLKOUT (out), 51 VSS (power), 52 RB2/PWM1 (io), 53 RB5/TCLK3 (io), 54 RB4/TCLK12 (io), 55 RB3/PWM2 (io), 56 RB1/CAP2 (io), 57 RB0/CAP1 (io), 58 RA0/INT (in), 59 RJ4 (io), 60 RJ5 (io), 61 RJ6 (io), 62 RJ7 (io), 63 RC7/AD7 (io), 64 RC6/AD6 (io), 65 RC5/AD5 (io), 66 RC4/AD4 (io), 67 RC3/AD3 (io), 68 RC2/AD2 (io), 69 RC1/AD1 (io), 70 VSS (power), 71 VDD (power), 72 RC0/AD0 (io), 73 RD7/AD15 (io), 74 RD6/AD14 (io), 75 RD5/AD13 (io), 76 RD4/AD12 (io), 77 RD3/AD11 (io), 78 RD2/AD10 (io), 79 RH0 (io), 80 RH1 (io)

## PIC17LC762-08I/L
designator U?
High-Performance 8-Bit CMOS EPROM Microcontroller with 10-Bit A/D, 8K (x16) EPROM, 8 MHz, 84-Pin PLCC, Extended VDD Range, Industrial Temperature; Note: Not recommended for new designs. Consider PIC18F8520 instead.; Note: Pins RA2 and RA3 can sink up to 60 mA.; Published: 11-Oct-2004; LatestRevisionDate: 13-Apr-2006; LatestRevisionNote: IPC-7351 Footprint Added.; DatasheetVersion: DS30289B_2000; PackageVersion: 2003; PackageReference: PLCC-84; Publisher: Altium Limited; PackageDescription: 84-Pin Plastic Leaded Chip Carrier 1.27 mm Pitch; Code_JEDEC: MO-047; Code_IPC: PLCC-84; ComponentLink1Description: Manufacturer Link; ComponentLink1URL: http://www.microchip.com; ComponentLink2Description: Datasheet; ComponentLink2URL: http://ww1.microchip.com/downloads/en/DeviceDoc/30289b.pdf; ComponentLink3Description: Packaging Specification; ComponentLink3URL: http://ww1.microchip.com/downloads/en/PackagingSpec/00049AD.pdf
footprint PLCC-84_N (Leaded Chip Carrier, 84-Leads, Body 29.3x29.3mm, Pitch 1.27mm, IPC Medium Density)
footprint PLCC-84_L (Leaded Chip Carrier, 84-Leads, Body 29.3x29.3mm, Pitch 1.27mm, IPC High Density)
footprint PLCC-84_M (Leaded Chip Carrier, 84-Leads, Body 29.3x29.3mm, Pitch 1.27mm, IPC Low Density)
3D model PIC17LC762-PLCC-84 (84-Pin Plastic Leaded Chip Carrier 1.27 mm Pitch)
pins: 1 NC, 2 VDD (power), 3 RC0/AD0 (io), 4 RD7/AD15 (io), 5 RD6/AD14 (io), 6 RD5/AD13 (io), 7 RD4/AD12 (io), 8 RD3/AD11 (io), 9 RD2/AD10 (io), 10 RH0 (io), 11 RH1 (io), 12 RH2 (io), 13 RH3 (io), 14 RD1/AD9 (io), 15 RD0/AD8 (io), 16 RE0/ALE (io), 17 RE1/~{OE} (io), 18 RE2/~{WR} (io), 19 RE3/CAP4 (io), 20 ~{MCLR}/VPP (in), 21 TEST (in), 22 NC, 23 VSS (power), 24 VDD (power), 25 RF7/AN11 (io), 26 RF6/AN10 (io), 27 RF5/AN9 (io), 28 RF4/AN8 (io), 29 RF3/AN7 (io), 30 RF2/AN6 (io), 31 RH4/AN12 (io), 32 RH5/AN13 (io), 33 RH6/AN14 (io), 34 RH7/AN15 (io), 35 RF1/AN5 (io), 36 RF0/AN4 (io), 37 AVDD (power), 38 AVSS (power), 39 RG3/AN0/VREF+ (io), 40 RG2/AN1/VREF- (io), 41 RG1/AN2 (io), 42 RG0/AN3 (io), 43 NC, 44 VSS (power), 45 VDD (power), 46 RG4/CAP3 (io), 47 RG5/PWM3 (io), 48 RG7/TX2/CK2 (io), 49 RG6/RX2/DT2 (io), 50 RA5/TX1/CK1 (io), 51 RA4/RX1/DT1 (io), 52 RJ0 (io), 53 RJ1 (io), 54 RJ2 (io), 55 RJ3 (io), 56 RA1/T0CKI (in), 57 RA2/~{SS}/SCL (io), 58 RA3/SDI/SDA (io), 59 RB6/SCK (io), 60 RB7/SDO (io), 61 VDD (power), 62 OSC1/CLKIN (in), 63 OSC2/CLKOUT (out), 64 NC, 65 VSS (power), 66 RB2/PWM1 (io), 67 RB5/TCLK3 (io), 68 RB4/TCLK12 (io), 69 RB3/PWM2 (io), 70 RB1/CAP2 (io), 71 RB0/CAP1 (io), 72 RA0/INT (in), 73 RJ4 (io), 74 RJ5 (io), 75 RJ6 (io), 76 RJ7 (io), 77 RC7/AD7 (io), 78 RC6/AD6 (io), 79 RC5/AD5 (io), 80 RC4/AD4 (io), 81 RC3/AD3 (io), 82 RC2/AD2 (io), 83 RC1/AD1 (io), 84 VSS (power)

## PIC17LC762-08I/PT
designator U?
High-Performance 8-Bit CMOS EPROM Microcontroller with 10-Bit A/D, 8K (x16) EPROM, 8 MHz, 80-Pin TQFP, Extended VDD Range, Industrial Temperature; Note: Not recommended for new designs. Consider PIC18F8520 instead.; Note: Pins RA2 and RA3 can sink up to 60 mA.; Published: 11-Oct-2004; LatestRevisionDate: 13-Apr-2006; LatestRevisionNote: IPC-7351 Footprint Added.; DatasheetVersion: DS30289B_2000; PackageVersion: 2003; PackageReference: TQFP-80; Publisher: Altium Limited; PackageDescription: 80-Pin Thin Plastic Quad Flat Pack 0.5 mm Pitch, 1.0/0.1 mm Lead Form; Code_JEDEC: MS-026; ComponentLink1Description: Manufacturer Link; ComponentLink1URL: http://www.microchip.com; ComponentLink2Description: Datasheet; ComponentLink2URL: http://ww1.microchip.com/downloads/en/DeviceDoc/30289b.pdf; ComponentLink3Description: Packaging Specification; ComponentLink3URL: http://ww1.microchip.com/downloads/en/PackagingSpec/00049AD.pdf
footprint TQFP-80_N (Thin QFP, 80-Leads, Body 12x12mm, Pitch 0.5mm, IPC Medium Density)
footprint TQFP-80_L (Thin QFP, 80-Leads, Body 12x12mm, Pitch 0.5mm, IPC High Density)
footprint TQFP-80_M (Thin QFP, 80-Leads, Body 12x12mm, Pitch 0.5mm, IPC Low Density)
3D model PIC17LC762-TQFP-80 (80-Pin Thin Plastic Quad Flat Pack 0.5 mm Pitch, 1.0/0.1 mm Lead Form)
pins: 1 RH2 (io), 2 RH3 (io), 3 RD1/AD9 (io), 4 RD0/AD8 (io), 5 RE0/ALE (io), 6 RE1/~{OE} (io), 7 RE2/~{WR} (io), 8 RE3/CAP4 (io), 9 ~{MCLR}/VPP (in), 10 TEST (in), 11 VSS (power), 12 VDD (power), 13 RF7/AN11 (io), 14 RF6/AN10 (io), 15 RF5/AN9 (io), 16 RF4/AN8 (io), 17 RF3/AN7 (io), 18 RF2/AN6 (io), 19 RH4/AN12 (io), 20 RH5/AN13 (io), 21 RH6/AN14 (io), 22 RH7/AN15 (io), 23 RF1/AN5 (io), 24 RF0/AN4 (io), 25 AVDD (power), 26 AVSS (power), 27 RG3/AN0/VREF+ (io), 28 RG2/AN1/VREF- (io), 29 RG1/AN2 (io), 30 RG0/AN3 (io), 31 VSS (power), 32 VDD (power), 33 RG4/CAP3 (io), 34 RG5/PWM3 (io), 35 RG7/TX2/CK2 (io), 36 RG6/RX2/DT2 (io), 37 RA5/TX1/CK1 (io), 38 RA4/RX1/DT1 (io), 39 RJ0 (io), 40 RJ1 (io), 41 RJ2 (io), 42 RJ3 (io), 43 RA1/T0CKI (in), 44 RA2/~{SS}/SCL (io), 45 RA3/SDI/SDA (io), 46 RB6/SCK (io), 47 RB7/SDO (io), 48 VDD (power), 49 OSC1/CLKIN (in), 50 OSC2/CLKOUT (out), 51 VSS (power), 52 RB2/PWM1 (io), 53 RB5/TCLK3 (io), 54 RB4/TCLK12 (io), 55 RB3/PWM2 (io), 56 RB1/CAP2 (io), 57 RB0/CAP1 (io), 58 RA0/INT (in), 59 RJ4 (io), 60 RJ5 (io), 61 RJ6 (io), 62 RJ7 (io), 63 RC7/AD7 (io), 64 RC6/AD6 (io), 65 RC5/AD5 (io), 66 RC4/AD4 (io), 67 RC3/AD3 (io), 68 RC2/AD2 (io), 69 RC1/AD1 (io), 70 VSS (power), 71 VDD (power), 72 RC0/AD0 (io), 73 RD7/AD15 (io), 74 RD6/AD14 (io), 75 RD5/AD13 (io), 76 RD4/AD12 (io), 77 RD3/AD11 (io), 78 RD2/AD10 (io), 79 RH0 (io), 80 RH1 (io)

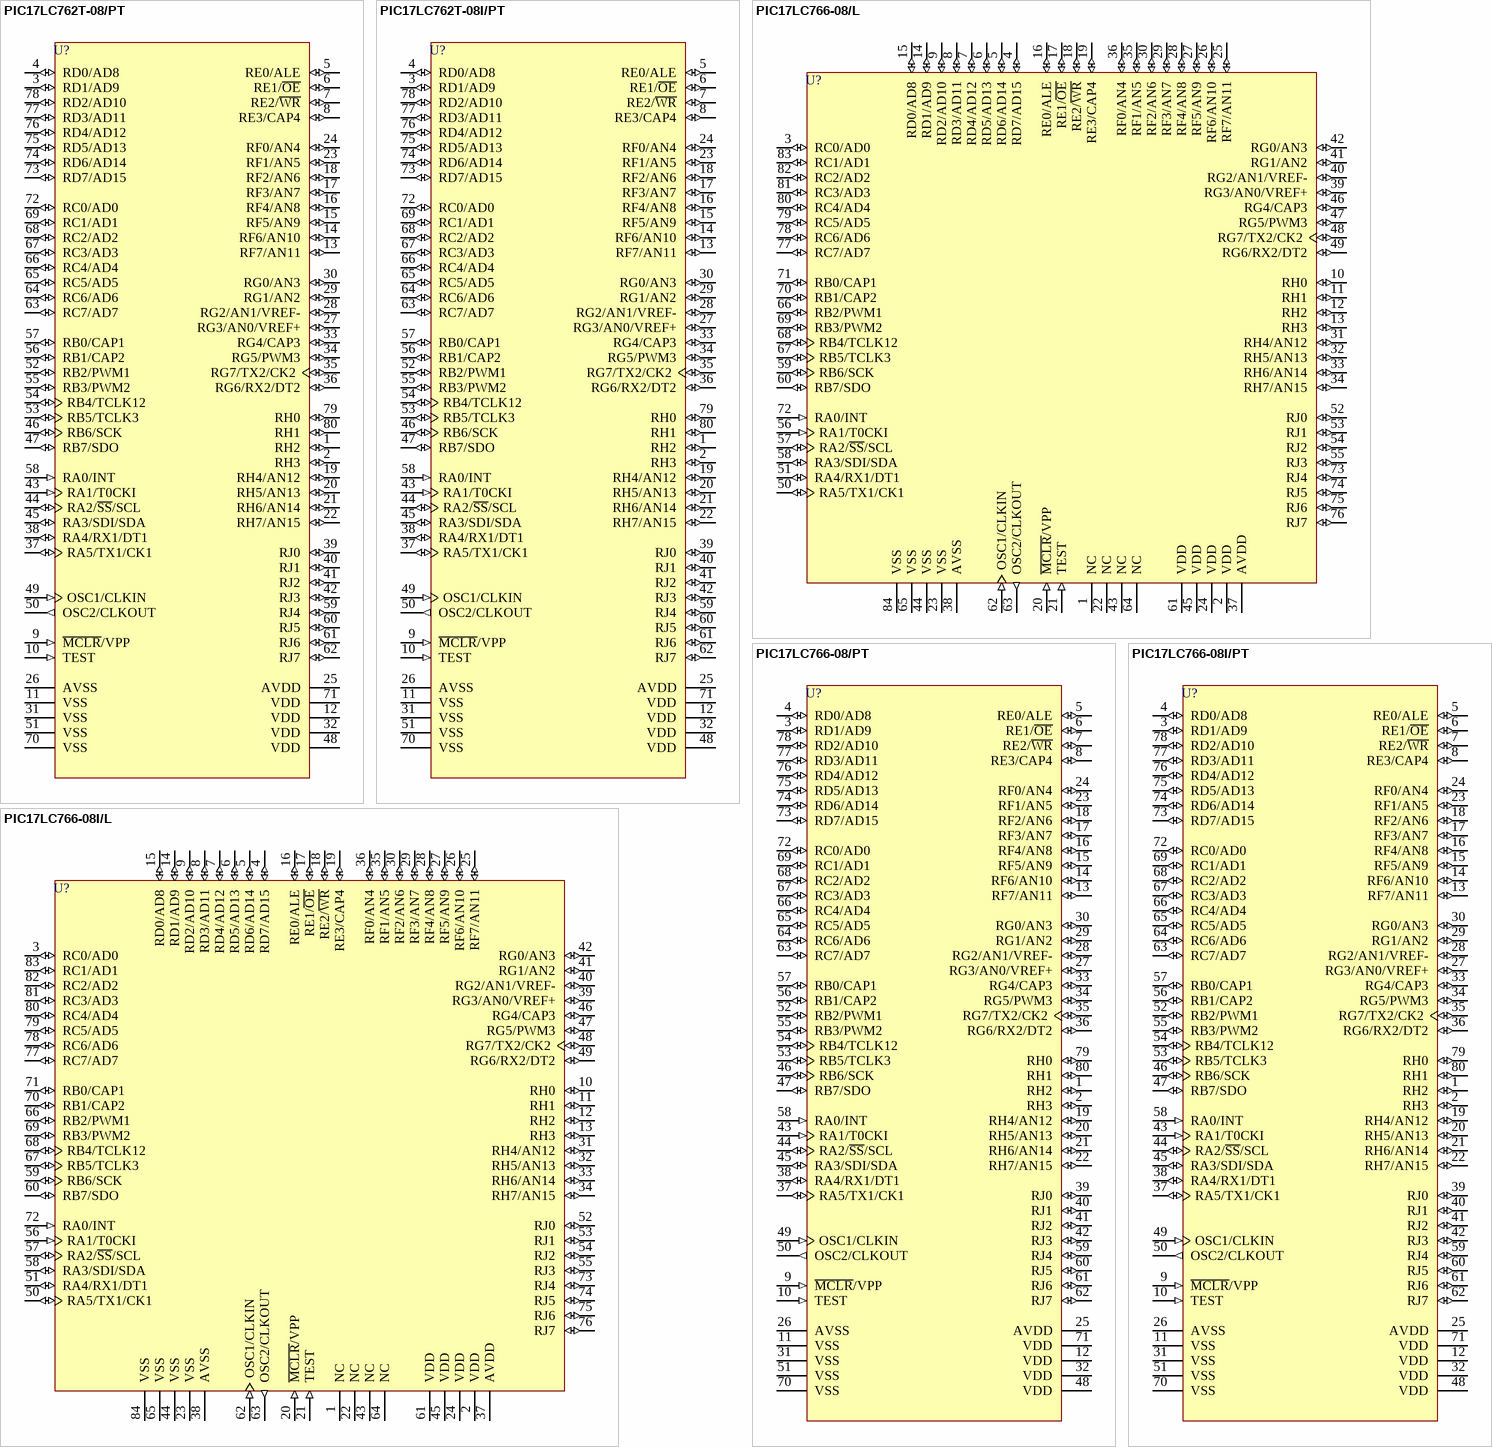
[diagram p40: symbols PIC17LC762T-08/PT to PIC17LC766-08I/PT]

## PIC17LC762T-08/PT
designator U?
High-Performance 8-Bit CMOS EPROM Microcontroller with 10-Bit A/D, 8K (x16) EPROM, 8 MHz, 80-Pin TQFP, Extended VDD Range, Commercial Temperature, Tape and Reel; Note: Not recommended for new designs. Consider PIC18F8520 instead.; Note: Pins RA2 and RA3 can sink up to 60 mA.; Published: 11-Oct-2004; LatestRevisionDate: 13-Apr-2006; LatestRevisionNote: IPC-7351 Footprint Added.; DatasheetVersion: DS30289B_2000; PackageVersion: 2003; PackageReference: TQFP-80; Publisher: Altium Limited; PackageDescription: 80-Pin Thin Plastic Quad Flat Pack 0.5 mm Pitch, 1.0/0.1 mm Lead Form; Code_JEDEC: MS-026; ComponentLink1Description: Manufacturer Link; ComponentLink1URL: http://www.microchip.com; ComponentLink2Description: Datasheet; ComponentLink2URL: http://ww1.microchip.com/downloads/en/DeviceDoc/30289b.pdf; ComponentLink3Description: Packaging Specification; ComponentLink3URL: http://ww1.microchip.com/downloads/en/PackagingSpec/00049AD.pdf
footprint TQFP-80_N (Thin QFP, 80-Leads, Body 12x12mm, Pitch 0.5mm, IPC Medium Density)
footprint TQFP-80_L (Thin QFP, 80-Leads, Body 12x12mm, Pitch 0.5mm, IPC High Density)
footprint TQFP-80_M (Thin QFP, 80-Leads, Body 12x12mm, Pitch 0.5mm, IPC Low Density)
3D model PIC17LC762-TQFP-80 (80-Pin Thin Plastic Quad Flat Pack 0.5 mm Pitch, 1.0/0.1 mm Lead Form)
pins: 1 RH2 (io), 2 RH3 (io), 3 RD1/AD9 (io), 4 RD0/AD8 (io), 5 RE0/ALE (io), 6 RE1/~{OE} (io), 7 RE2/~{WR} (io), 8 RE3/CAP4 (io), 9 ~{MCLR}/VPP (in), 10 TEST (in), 11 VSS (power), 12 VDD (power), 13 RF7/AN11 (io), 14 RF6/AN10 (io), 15 RF5/AN9 (io), 16 RF4/AN8 (io), 17 RF3/AN7 (io), 18 RF2/AN6 (io), 19 RH4/AN12 (io), 20 RH5/AN13 (io), 21 RH6/AN14 (io), 22 RH7/AN15 (io), 23 RF1/AN5 (io), 24 RF0/AN4 (io), 25 AVDD (power), 26 AVSS (power), 27 RG3/AN0/VREF+ (io), 28 RG2/AN1/VREF- (io), 29 RG1/AN2 (io), 30 RG0/AN3 (io), 31 VSS (power), 32 VDD (power), 33 RG4/CAP3 (io), 34 RG5/PWM3 (io), 35 RG7/TX2/CK2 (io), 36 RG6/RX2/DT2 (io), 37 RA5/TX1/CK1 (io), 38 RA4/RX1/DT1 (io), 39 RJ0 (io), 40 RJ1 (io), 41 RJ2 (io), 42 RJ3 (io), 43 RA1/T0CKI (in), 44 RA2/~{SS}/SCL (io), 45 RA3/SDI/SDA (io), 46 RB6/SCK (io), 47 RB7/SDO (io), 48 VDD (power), 49 OSC1/CLKIN (in), 50 OSC2/CLKOUT (out), 51 VSS (power), 52 RB2/PWM1 (io), 53 RB5/TCLK3 (io), 54 RB4/TCLK12 (io), 55 RB3/PWM2 (io), 56 RB1/CAP2 (io), 57 RB0/CAP1 (io), 58 RA0/INT (in), 59 RJ4 (io), 60 RJ5 (io), 61 RJ6 (io), 62 RJ7 (io), 63 RC7/AD7 (io), 64 RC6/AD6 (io), 65 RC5/AD5 (io), 66 RC4/AD4 (io), 67 RC3/AD3 (io), 68 RC2/AD2 (io), 69 RC1/AD1 (io), 70 VSS (power), 71 VDD (power), 72 RC0/AD0 (io), 73 RD7/AD15 (io), 74 RD6/AD14 (io), 75 RD5/AD13 (io), 76 RD4/AD12 (io), 77 RD3/AD11 (io), 78 RD2/AD10 (io), 79 RH0 (io), 80 RH1 (io)

## PIC17LC762T-08I/PT
designator U?
High-Performance 8-Bit CMOS EPROM Microcontroller with 10-Bit A/D, 8K (x16) EPROM, 8 MHz, 80-Pin TQFP, Extended VDD Range, Industrial Temperature, Tape and Reel; Note: Not recommended for new designs. Consider PIC18F8520 instead.; Note: Pins RA2 and RA3 can sink up to 60 mA.; Published: 11-Oct-2004; LatestRevisionDate: 13-Apr-2006; LatestRevisionNote: IPC-7351 Footprint Added.; DatasheetVersion: DS30289B_2000; PackageVersion: 2003; PackageReference: TQFP-80; Publisher: Altium Limited; PackageDescription: 80-Pin Thin Plastic Quad Flat Pack 0.5 mm Pitch, 1.0/0.1 mm Lead Form; Code_JEDEC: MS-026; ComponentLink1Description: Manufacturer Link; ComponentLink1URL: http://www.microchip.com; ComponentLink2Description: Datasheet; ComponentLink2URL: http://ww1.microchip.com/downloads/en/DeviceDoc/30289b.pdf; ComponentLink3Description: Packaging Specification; ComponentLink3URL: http://ww1.microchip.com/downloads/en/PackagingSpec/00049AD.pdf
footprint TQFP-80_N (Thin QFP, 80-Leads, Body 12x12mm, Pitch 0.5mm, IPC Medium Density)
footprint TQFP-80_L (Thin QFP, 80-Leads, Body 12x12mm, Pitch 0.5mm, IPC High Density)
footprint TQFP-80_M (Thin QFP, 80-Leads, Body 12x12mm, Pitch 0.5mm, IPC Low Density)
3D model PIC17LC762-TQFP-80 (80-Pin Thin Plastic Quad Flat Pack 0.5 mm Pitch, 1.0/0.1 mm Lead Form)
pins: 1 RH2 (io), 2 RH3 (io), 3 RD1/AD9 (io), 4 RD0/AD8 (io), 5 RE0/ALE (io), 6 RE1/~{OE} (io), 7 RE2/~{WR} (io), 8 RE3/CAP4 (io), 9 ~{MCLR}/VPP (in), 10 TEST (in), 11 VSS (power), 12 VDD (power), 13 RF7/AN11 (io), 14 RF6/AN10 (io), 15 RF5/AN9 (io), 16 RF4/AN8 (io), 17 RF3/AN7 (io), 18 RF2/AN6 (io), 19 RH4/AN12 (io), 20 RH5/AN13 (io), 21 RH6/AN14 (io), 22 RH7/AN15 (io), 23 RF1/AN5 (io), 24 RF0/AN4 (io), 25 AVDD (power), 26 AVSS (power), 27 RG3/AN0/VREF+ (io), 28 RG2/AN1/VREF- (io), 29 RG1/AN2 (io), 30 RG0/AN3 (io), 31 VSS (power), 32 VDD (power), 33 RG4/CAP3 (io), 34 RG5/PWM3 (io), 35 RG7/TX2/CK2 (io), 36 RG6/RX2/DT2 (io), 37 RA5/TX1/CK1 (io), 38 RA4/RX1/DT1 (io), 39 RJ0 (io), 40 RJ1 (io), 41 RJ2 (io), 42 RJ3 (io), 43 RA1/T0CKI (in), 44 RA2/~{SS}/SCL (io), 45 RA3/SDI/SDA (io), 46 RB6/SCK (io), 47 RB7/SDO (io), 48 VDD (power), 49 OSC1/CLKIN (in), 50 OSC2/CLKOUT (out), 51 VSS (power), 52 RB2/PWM1 (io), 53 RB5/TCLK3 (io), 54 RB4/TCLK12 (io), 55 RB3/PWM2 (io), 56 RB1/CAP2 (io), 57 RB0/CAP1 (io), 58 RA0/INT (in), 59 RJ4 (io), 60 RJ5 (io), 61 RJ6 (io), 62 RJ7 (io), 63 RC7/AD7 (io), 64 RC6/AD6 (io), 65 RC5/AD5 (io), 66 RC4/AD4 (io), 67 RC3/AD3 (io), 68 RC2/AD2 (io), 69 RC1/AD1 (io), 70 VSS (power), 71 VDD (power), 72 RC0/AD0 (io), 73 RD7/AD15 (io), 74 RD6/AD14 (io), 75 RD5/AD13 (io), 76 RD4/AD12 (io), 77 RD3/AD11 (io), 78 RD2/AD10 (io), 79 RH0 (io), 80 RH1 (io)

## PIC17LC766-08/L
designator U?
High-Performance 8-Bit CMOS EPROM Microcontroller with 10-Bit A/D, 16K (x16) EPROM, 8 MHz, 84-Pin PLCC, Extended VDD Range, Commercial Temperature; Note: Not recommended for new designs. Consider PIC18F8520 instead.; Note: Pins RA2 and RA3 can sink up to 60 mA.; Published: 11-Oct-2004; LatestRevisionDate: 13-Apr-2006; LatestRevisionNote: IPC-7351 Footprint Added.; DatasheetVersion: DS30289B_2000; PackageVersion: 2003; PackageReference: PLCC-84; Publisher: Altium Limited; PackageDescription: 84-Pin Plastic Leaded Chip Carrier 1.27 mm Pitch; Code_JEDEC: MO-047; Code_IPC: PLCC-84; ComponentLink1Description: Manufacturer Link; ComponentLink1URL: http://www.microchip.com; ComponentLink2Description: Datasheet; ComponentLink2URL: http://ww1.microchip.com/downloads/en/DeviceDoc/30289b.pdf; ComponentLink3Description: Packaging Specification; ComponentLink3URL: http://ww1.microchip.com/downloads/en/PackagingSpec/00049AD.pdf
footprint PLCC-84_N (Leaded Chip Carrier, 84-Leads, Body 29.3x29.3mm, Pitch 1.27mm, IPC Medium Density)
footprint PLCC-84_L (Leaded Chip Carrier, 84-Leads, Body 29.3x29.3mm, Pitch 1.27mm, IPC High Density)
footprint PLCC-84_M (Leaded Chip Carrier, 84-Leads, Body 29.3x29.3mm, Pitch 1.27mm, IPC Low Density)
3D model PIC17LC766-PLCC-84 (84-Pin Plastic Leaded Chip Carrier 1.27 mm Pitch)
pins: 1 NC, 2 VDD (power), 3 RC0/AD0 (io), 4 RD7/AD15 (io), 5 RD6/AD14 (io), 6 RD5/AD13 (io), 7 RD4/AD12 (io), 8 RD3/AD11 (io), 9 RD2/AD10 (io), 10 RH0 (io), 11 RH1 (io), 12 RH2 (io), 13 RH3 (io), 14 RD1/AD9 (io), 15 RD0/AD8 (io), 16 RE0/ALE (io), 17 RE1/~{OE} (io), 18 RE2/~{WR} (io), 19 RE3/CAP4 (io), 20 ~{MCLR}/VPP (in), 21 TEST (in), 22 NC, 23 VSS (power), 24 VDD (power), 25 RF7/AN11 (io), 26 RF6/AN10 (io), 27 RF5/AN9 (io), 28 RF4/AN8 (io), 29 RF3/AN7 (io), 30 RF2/AN6 (io), 31 RH4/AN12 (io), 32 RH5/AN13 (io), 33 RH6/AN14 (io), 34 RH7/AN15 (io), 35 RF1/AN5 (io), 36 RF0/AN4 (io), 37 AVDD (power), 38 AVSS (power), 39 RG3/AN0/VREF+ (io), 40 RG2/AN1/VREF- (io), 41 RG1/AN2 (io), 42 RG0/AN3 (io), 43 NC, 44 VSS (power), 45 VDD (power), 46 RG4/CAP3 (io), 47 RG5/PWM3 (io), 48 RG7/TX2/CK2 (io), 49 RG6/RX2/DT2 (io), 50 RA5/TX1/CK1 (io), 51 RA4/RX1/DT1 (io), 52 RJ0 (io), 53 RJ1 (io), 54 RJ2 (io), 55 RJ3 (io), 56 RA1/T0CKI (in), 57 RA2/~{SS}/SCL (io), 58 RA3/SDI/SDA (io), 59 RB6/SCK (io), 60 RB7/SDO (io), 61 VDD (power), 62 OSC1/CLKIN (in), 63 OSC2/CLKOUT (out), 64 NC, 65 VSS (power), 66 RB2/PWM1 (io), 67 RB5/TCLK3 (io), 68 RB4/TCLK12 (io), 69 RB3/PWM2 (io), 70 RB1/CAP2 (io), 71 RB0/CAP1 (io), 72 RA0/INT (in), 73 RJ4 (io), 74 RJ5 (io), 75 RJ6 (io), 76 RJ7 (io), 77 RC7/AD7 (io), 78 RC6/AD6 (io), 79 RC5/AD5 (io), 80 RC4/AD4 (io), 81 RC3/AD3 (io), 82 RC2/AD2 (io), 83 RC1/AD1 (io), 84 VSS (power)

## PIC17LC766-08/PT
designator U?
High-Performance 8-Bit CMOS EPROM Microcontroller with 10-Bit A/D, 16K (x16) EPROM, 8 MHz, 80-Pin TQFP, Extended VDD Range, Commercial Temperature; Note: Not recommended for new designs. Consider PIC18F8520 instead.; Note: Pins RA2 and RA3 can sink up to 60 mA.; Published: 11-Oct-2004; LatestRevisionDate: 13-Apr-2006; LatestRevisionNote: IPC-7351 Footprint Added.; DatasheetVersion: DS30289B_2000; PackageVersion: 2003; PackageReference: TQFP-80; Publisher: Altium Limited; PackageDescription: 80-Pin Thin Plastic Quad Flat Pack 0.5 mm Pitch, 1.0/0.1 mm Lead Form; Code_JEDEC: MS-026; ComponentLink1Description: Manufacturer Link; ComponentLink1URL: http://www.microchip.com; ComponentLink2Description: Datasheet; ComponentLink2URL: http://ww1.microchip.com/downloads/en/DeviceDoc/30289b.pdf; ComponentLink3Description: Packaging Specification; ComponentLink3URL: http://ww1.microchip.com/downloads/en/PackagingSpec/00049AD.pdf
footprint TQFP-80_N (Thin QFP, 80-Leads, Body 12x12mm, Pitch 0.5mm, IPC Medium Density)
footprint TQFP-80_L (Thin QFP, 80-Leads, Body 12x12mm, Pitch 0.5mm, IPC High Density)
footprint TQFP-80_M (Thin QFP, 80-Leads, Body 12x12mm, Pitch 0.5mm, IPC Low Density)
3D model PIC17LC766-TQFP-80 (80-Pin Thin Plastic Quad Flat Pack 0.5 mm Pitch, 1.0/0.1 mm Lead Form)
pins: 1 RH2 (io), 2 RH3 (io), 3 RD1/AD9 (io), 4 RD0/AD8 (io), 5 RE0/ALE (io), 6 RE1/~{OE} (io), 7 RE2/~{WR} (io), 8 RE3/CAP4 (io), 9 ~{MCLR}/VPP (in), 10 TEST (in), 11 VSS (power), 12 VDD (power), 13 RF7/AN11 (io), 14 RF6/AN10 (io), 15 RF5/AN9 (io), 16 RF4/AN8 (io), 17 RF3/AN7 (io), 18 RF2/AN6 (io), 19 RH4/AN12 (io), 20 RH5/AN13 (io), 21 RH6/AN14 (io), 22 RH7/AN15 (io), 23 RF1/AN5 (io), 24 RF0/AN4 (io), 25 AVDD (power), 26 AVSS (power), 27 RG3/AN0/VREF+ (io), 28 RG2/AN1/VREF- (io), 29 RG1/AN2 (io), 30 RG0/AN3 (io), 31 VSS (power), 32 VDD (power), 33 RG4/CAP3 (io), 34 RG5/PWM3 (io), 35 RG7/TX2/CK2 (io), 36 RG6/RX2/DT2 (io), 37 RA5/TX1/CK1 (io), 38 RA4/RX1/DT1 (io), 39 RJ0 (io), 40 RJ1 (io), 41 RJ2 (io), 42 RJ3 (io), 43 RA1/T0CKI (in), 44 RA2/~{SS}/SCL (io), 45 RA3/SDI/SDA (io), 46 RB6/SCK (io), 47 RB7/SDO (io), 48 VDD (power), 49 OSC1/CLKIN (in), 50 OSC2/CLKOUT (out), 51 VSS (power), 52 RB2/PWM1 (io), 53 RB5/TCLK3 (io), 54 RB4/TCLK12 (io), 55 RB3/PWM2 (io), 56 RB1/CAP2 (io), 57 RB0/CAP1 (io), 58 RA0/INT (in), 59 RJ4 (io), 60 RJ5 (io), 61 RJ6 (io), 62 RJ7 (io), 63 RC7/AD7 (io), 64 RC6/AD6 (io), 65 RC5/AD5 (io), 66 RC4/AD4 (io), 67 RC3/AD3 (io), 68 RC2/AD2 (io), 69 RC1/AD1 (io), 70 VSS (power), 71 VDD (power), 72 RC0/AD0 (io), 73 RD7/AD15 (io), 74 RD6/AD14 (io), 75 RD5/AD13 (io), 76 RD4/AD12 (io), 77 RD3/AD11 (io), 78 RD2/AD10 (io), 79 RH0 (io), 80 RH1 (io)

## PIC17LC766-08I/L
designator U?
High-Performance 8-Bit CMOS EPROM Microcontroller with 10-Bit A/D, 16K (x16) EPROM, 8 MHz, 84-Pin PLCC, Extended VDD Range, Industrial Temperature; Note: Not recommended for new designs. Consider PIC18F8520 instead.; Note: Pins RA2 and RA3 can sink up to 60 mA.; Published: 11-Oct-2004; LatestRevisionDate: 13-Apr-2006; LatestRevisionNote: IPC-7351 Footprint Added.; DatasheetVersion: DS30289B_2000; PackageVersion: 2003; PackageReference: PLCC-84; Publisher: Altium Limited; PackageDescription: 84-Pin Plastic Leaded Chip Carrier 1.27 mm Pitch; Code_JEDEC: MO-047; Code_IPC: PLCC-84; ComponentLink1Description: Manufacturer Link; ComponentLink1URL: http://www.microchip.com; ComponentLink2Description: Datasheet; ComponentLink2URL: http://ww1.microchip.com/downloads/en/DeviceDoc/30289b.pdf; ComponentLink3Description: Packaging Specification; ComponentLink3URL: http://ww1.microchip.com/downloads/en/PackagingSpec/00049AD.pdf
footprint PLCC-84_N (Leaded Chip Carrier, 84-Leads, Body 29.3x29.3mm, Pitch 1.27mm, IPC Medium Density)
footprint PLCC-84_L (Leaded Chip Carrier, 84-Leads, Body 29.3x29.3mm, Pitch 1.27mm, IPC High Density)
footprint PLCC-84_M (Leaded Chip Carrier, 84-Leads, Body 29.3x29.3mm, Pitch 1.27mm, IPC Low Density)
3D model PIC17LC766-PLCC-84 (84-Pin Plastic Leaded Chip Carrier 1.27 mm Pitch)
pins: 1 NC, 2 VDD (power), 3 RC0/AD0 (io), 4 RD7/AD15 (io), 5 RD6/AD14 (io), 6 RD5/AD13 (io), 7 RD4/AD12 (io), 8 RD3/AD11 (io), 9 RD2/AD10 (io), 10 RH0 (io), 11 RH1 (io), 12 RH2 (io), 13 RH3 (io), 14 RD1/AD9 (io), 15 RD0/AD8 (io), 16 RE0/ALE (io), 17 RE1/~{OE} (io), 18 RE2/~{WR} (io), 19 RE3/CAP4 (io), 20 ~{MCLR}/VPP (in), 21 TEST (in), 22 NC, 23 VSS (power), 24 VDD (power), 25 RF7/AN11 (io), 26 RF6/AN10 (io), 27 RF5/AN9 (io), 28 RF4/AN8 (io), 29 RF3/AN7 (io), 30 RF2/AN6 (io), 31 RH4/AN12 (io), 32 RH5/AN13 (io), 33 RH6/AN14 (io), 34 RH7/AN15 (io), 35 RF1/AN5 (io), 36 RF0/AN4 (io), 37 AVDD (power), 38 AVSS (power), 39 RG3/AN0/VREF+ (io), 40 RG2/AN1/VREF- (io), 41 RG1/AN2 (io), 42 RG0/AN3 (io), 43 NC, 44 VSS (power), 45 VDD (power), 46 RG4/CAP3 (io), 47 RG5/PWM3 (io), 48 RG7/TX2/CK2 (io), 49 RG6/RX2/DT2 (io), 50 RA5/TX1/CK1 (io), 51 RA4/RX1/DT1 (io), 52 RJ0 (io), 53 RJ1 (io), 54 RJ2 (io), 55 RJ3 (io), 56 RA1/T0CKI (in), 57 RA2/~{SS}/SCL (io), 58 RA3/SDI/SDA (io), 59 RB6/SCK (io), 60 RB7/SDO (io), 61 VDD (power), 62 OSC1/CLKIN (in), 63 OSC2/CLKOUT (out), 64 NC, 65 VSS (power), 66 RB2/PWM1 (io), 67 RB5/TCLK3 (io), 68 RB4/TCLK12 (io), 69 RB3/PWM2 (io), 70 RB1/CAP2 (io), 71 RB0/CAP1 (io), 72 RA0/INT (in), 73 RJ4 (io), 74 RJ5 (io), 75 RJ6 (io), 76 RJ7 (io), 77 RC7/AD7 (io), 78 RC6/AD6 (io), 79 RC5/AD5 (io), 80 RC4/AD4 (io), 81 RC3/AD3 (io), 82 RC2/AD2 (io), 83 RC1/AD1 (io), 84 VSS (power)

## PIC17LC766-08I/PT
designator U?
High-Performance 8-Bit CMOS EPROM Microcontroller with 10-Bit A/D, 16K (x16) EPROM, 8 MHz, 80-Pin TQFP, Extended VDD Range, Industrial Temperature; Note: Not recommended for new designs. Consider PIC18F8520 instead.; Note: Pins RA2 and RA3 can sink up to 60 mA.; Published: 11-Oct-2004; LatestRevisionDate: 13-Apr-2006; LatestRevisionNote: IPC-7351 Footprint Added.; DatasheetVersion: DS30289B_2000; PackageVersion: 2003; PackageReference: TQFP-80; Publisher: Altium Limited; PackageDescription: 80-Pin Thin Plastic Quad Flat Pack 0.5 mm Pitch, 1.0/0.1 mm Lead Form; Code_JEDEC: MS-026; ComponentLink1Description: Manufacturer Link; ComponentLink1URL: http://www.microchip.com; ComponentLink2Description: Datasheet; ComponentLink2URL: http://ww1.microchip.com/downloads/en/DeviceDoc/30289b.pdf; ComponentLink3Description: Packaging Specification; ComponentLink3URL: http://ww1.microchip.com/downloads/en/PackagingSpec/00049AD.pdf
footprint TQFP-80_N (Thin QFP, 80-Leads, Body 12x12mm, Pitch 0.5mm, IPC Medium Density)
footprint TQFP-80_L (Thin QFP, 80-Leads, Body 12x12mm, Pitch 0.5mm, IPC High Density)
footprint TQFP-80_M (Thin QFP, 80-Leads, Body 12x12mm, Pitch 0.5mm, IPC Low Density)
3D model PIC17LC766-TQFP-80 (80-Pin Thin Plastic Quad Flat Pack 0.5 mm Pitch, 1.0/0.1 mm Lead Form)
pins: 1 RH2 (io), 2 RH3 (io), 3 RD1/AD9 (io), 4 RD0/AD8 (io), 5 RE0/ALE (io), 6 RE1/~{OE} (io), 7 RE2/~{WR} (io), 8 RE3/CAP4 (io), 9 ~{MCLR}/VPP (in), 10 TEST (in), 11 VSS (power), 12 VDD (power), 13 RF7/AN11 (io), 14 RF6/AN10 (io), 15 RF5/AN9 (io), 16 RF4/AN8 (io), 17 RF3/AN7 (io), 18 RF2/AN6 (io), 19 RH4/AN12 (io), 20 RH5/AN13 (io), 21 RH6/AN14 (io), 22 RH7/AN15 (io), 23 RF1/AN5 (io), 24 RF0/AN4 (io), 25 AVDD (power), 26 AVSS (power), 27 RG3/AN0/VREF+ (io), 28 RG2/AN1/VREF- (io), 29 RG1/AN2 (io), 30 RG0/AN3 (io), 31 VSS (power), 32 VDD (power), 33 RG4/CAP3 (io), 34 RG5/PWM3 (io), 35 RG7/TX2/CK2 (io), 36 RG6/RX2/DT2 (io), 37 RA5/TX1/CK1 (io), 38 RA4/RX1/DT1 (io), 39 RJ0 (io), 40 RJ1 (io), 41 RJ2 (io), 42 RJ3 (io), 43 RA1/T0CKI (in), 44 RA2/~{SS}/SCL (io), 45 RA3/SDI/SDA (io), 46 RB6/SCK (io), 47 RB7/SDO (io), 48 VDD (power), 49 OSC1/CLKIN (in), 50 OSC2/CLKOUT (out), 51 VSS (power), 52 RB2/PWM1 (io), 53 RB5/TCLK3 (io), 54 RB4/TCLK12 (io), 55 RB3/PWM2 (io), 56 RB1/CAP2 (io), 57 RB0/CAP1 (io), 58 RA0/INT (in), 59 RJ4 (io), 60 RJ5 (io), 61 RJ6 (io), 62 RJ7 (io), 63 RC7/AD7 (io), 64 RC6/AD6 (io), 65 RC5/AD5 (io), 66 RC4/AD4 (io), 67 RC3/AD3 (io), 68 RC2/AD2 (io), 69 RC1/AD1 (io), 70 VSS (power), 71 VDD (power), 72 RC0/AD0 (io), 73 RD7/AD15 (io), 74 RD6/AD14 (io), 75 RD5/AD13 (io), 76 RD4/AD12 (io), 77 RD3/AD11 (io), 78 RD2/AD10 (io), 79 RH0 (io), 80 RH1 (io)

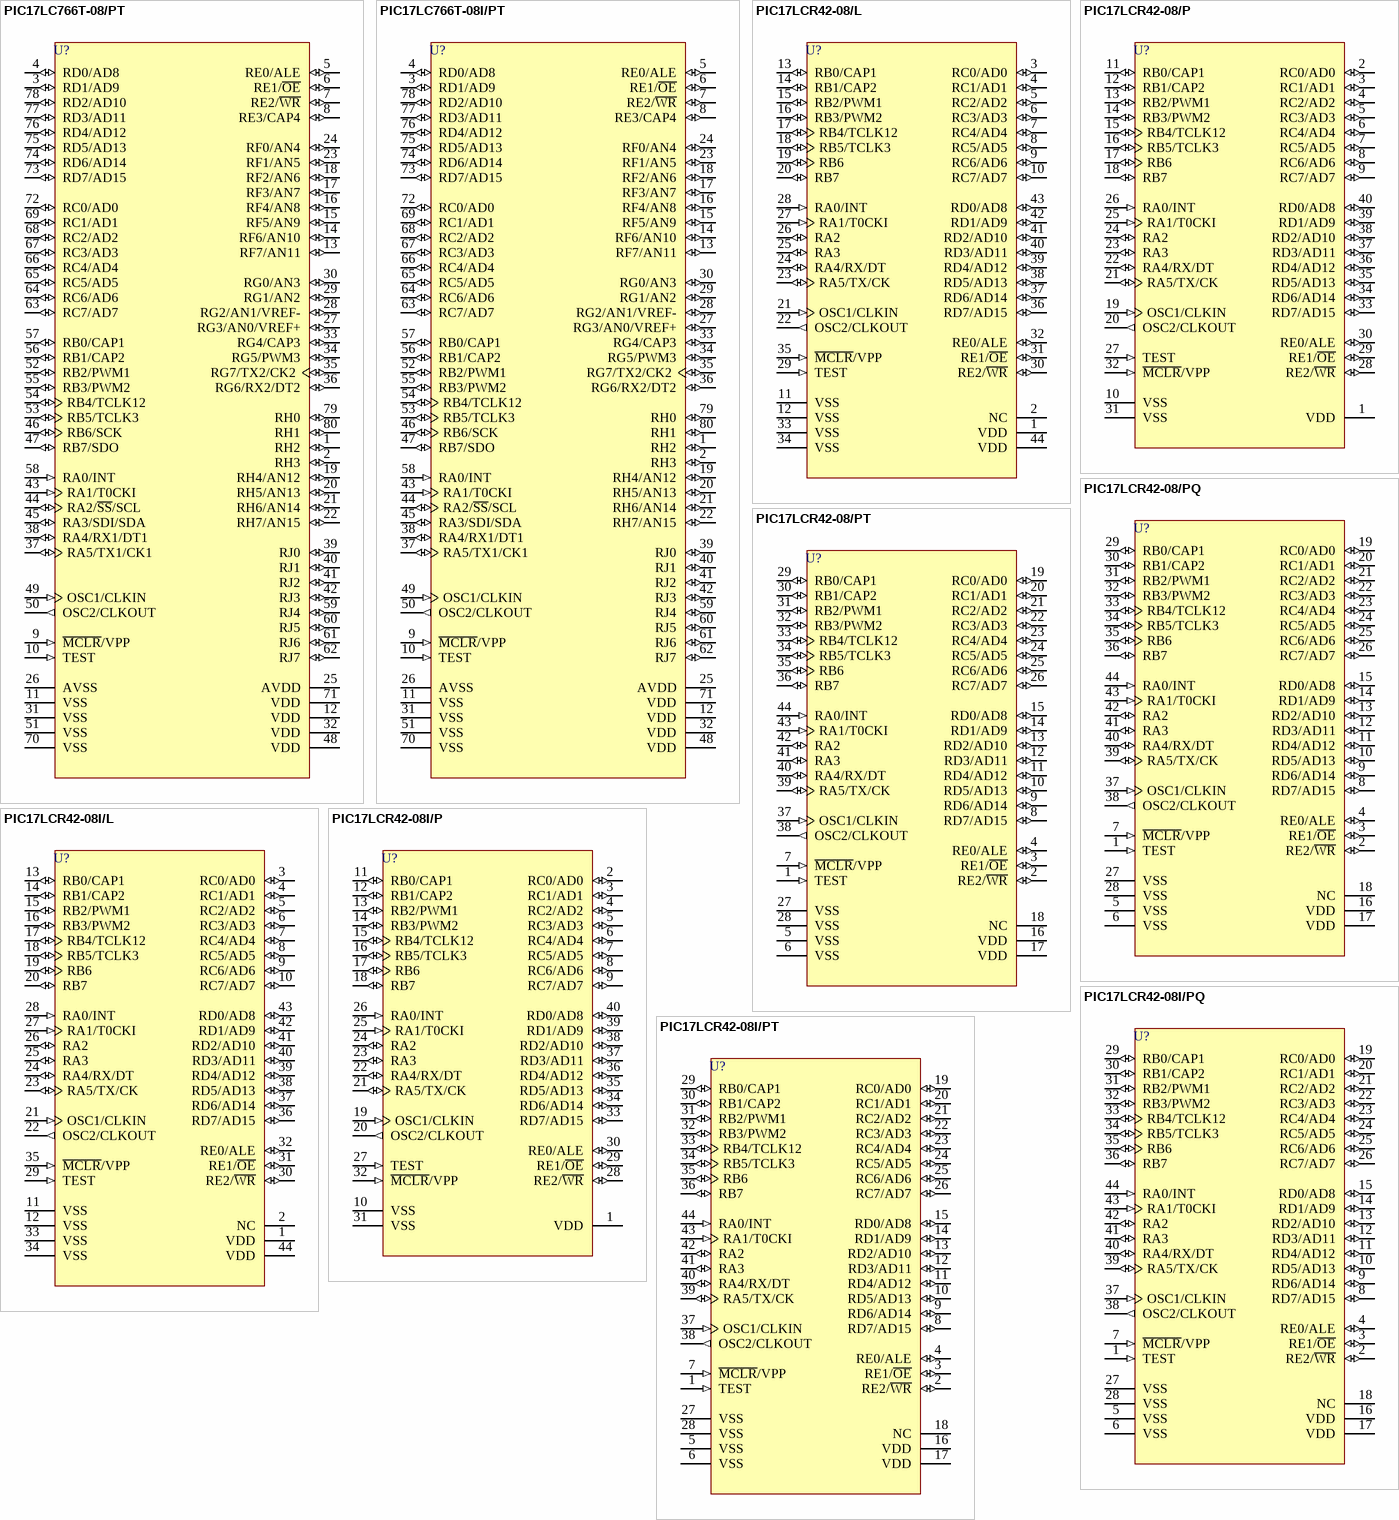
[diagram p41: symbols PIC17LC766T-08/PT to PIC17LCR42-08I/PT]